# Altium integrated library Common-Parts-Library-Altium.IntLib: 531 symbols (part 1 of 2)
Pins are listed as number, name and electrical type; pins without a type are passive.

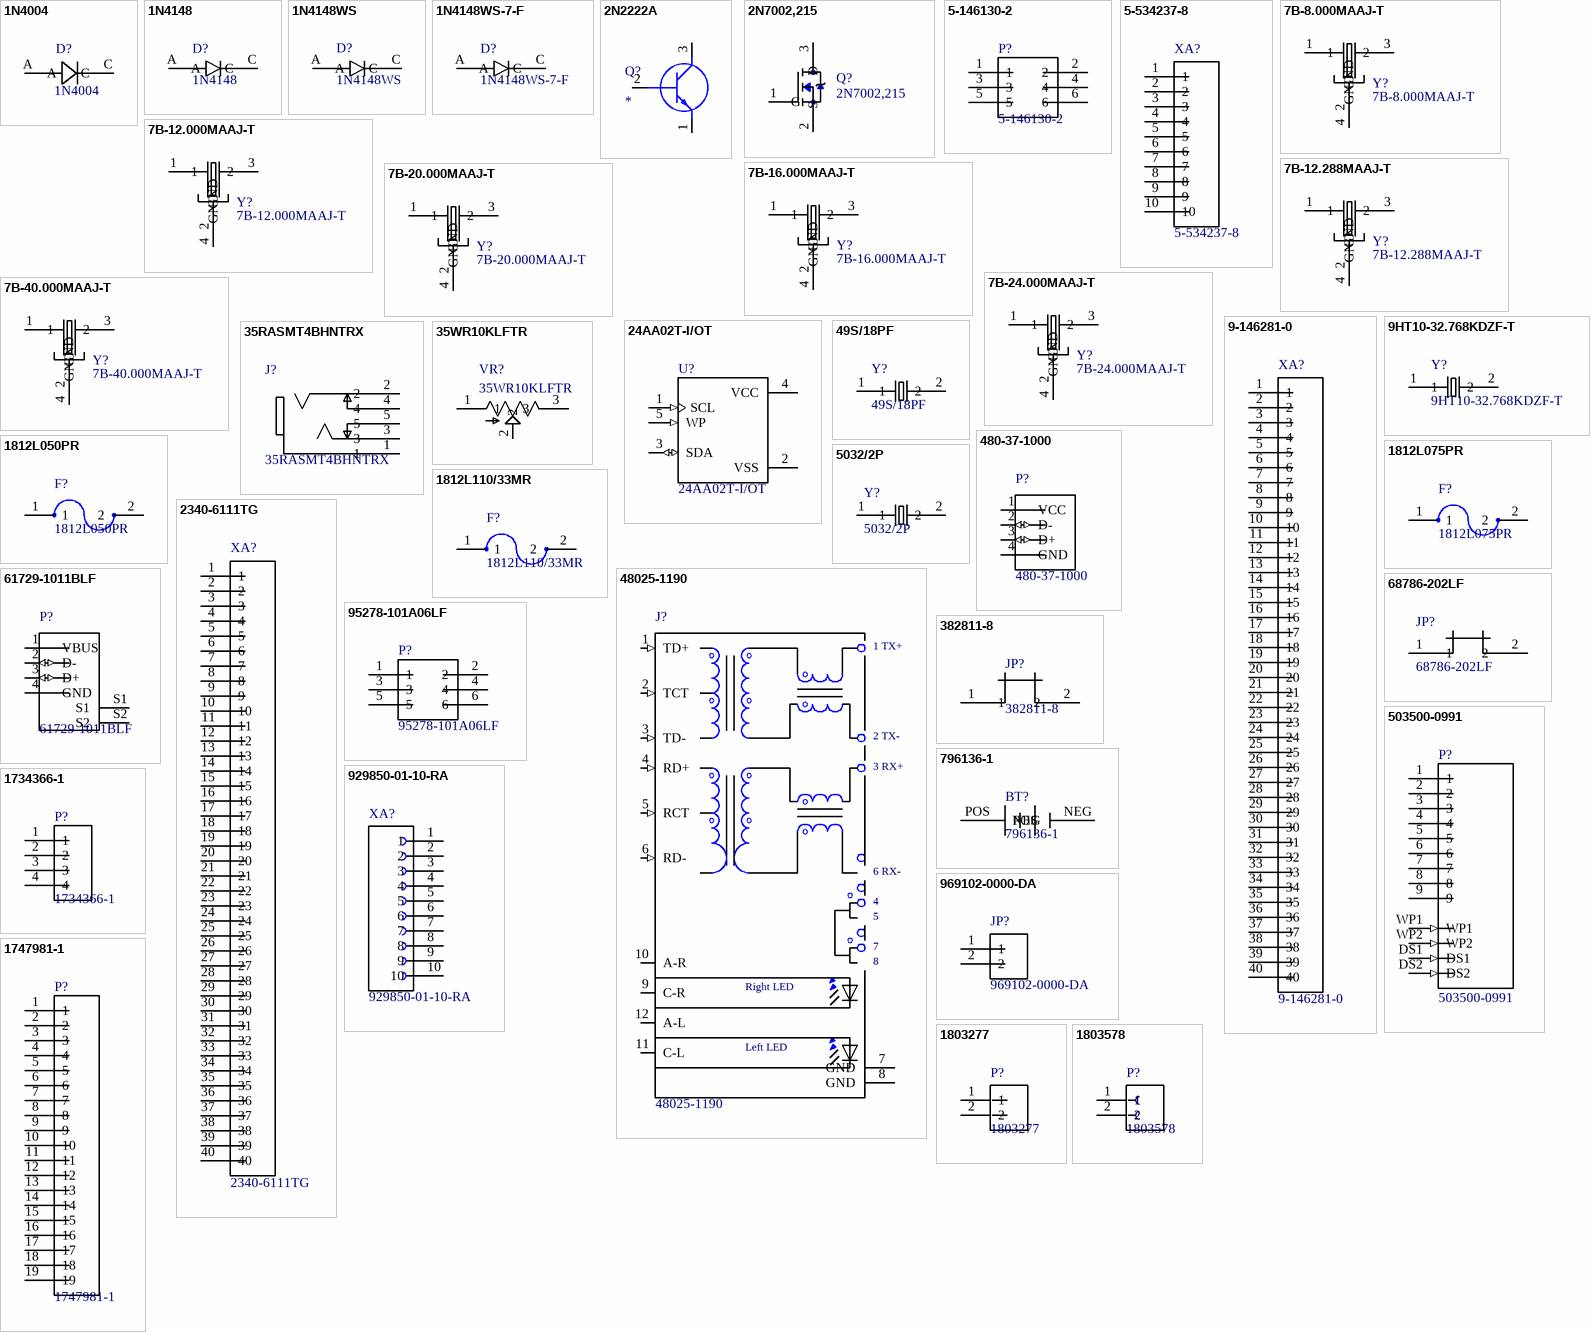
[diagram p0: symbols 1N4004 to 1803578]

## 1N4004
designator D?
Value: *
footprint DIOAD520W79L463D238_1N4004(Primary)
pins: A, C

## 1N4148
designator D?
Value: *
footprint DIOMELF3515N_1N4148(Primary)
pins: A, C

## 1N4148WS
designator D?
Value: *
footprint SODFL2512X100N_1N4148WS(Primary)
pins: A, C

## 1N4148WS-7-F
designator D?
Value: *
footprint SOD2513X120N_1N4148WS-7-F(Primary)
pins: A, C

## 2N2222A
designator Q?
Transistor BJT NPN; Manufacturer_Name: Central Semiconductor; Manufacturer_Part_Number: 2N2222A; Description: Bipolar Transistors - BJT NPN Gen Pur SS; Datasheet Link: https://my.centralsemi.com/get_document.php?cmp=1&mergetype=pd&mergepath=pd&pdf_id=2N2221A.PDF; Mouser Part Number: 610-2N2222A; Mouser Price/Stock: https://www.mouser.com/Search/Refine.aspx?Keyword=610-2N2222A; Arrow Part Number: 2N2222A; Arrow Price/Stock: https://www.arrow.com/en/products/2n2222a/central-semiconductor?utm_currency=USD&region=nac
footprint CENTRAL_TO18
pins: 1 E, 2 B, 3 C

## 2N7002,215
designator Q?
Value: *
footprint SOT95P230X110-3N
pins: 1 G, 2 S, 3 D

## 5-146130-2
designator P?
Value: *
footprint TE_5-146130-2
pins: 1, 2, 3, 4, 5, 6

## 5-534237-8
designator XA?
Value: *
footprint TE_5-534237-8
pins: 1, 2, 3, 4, 5, 6, 7, 8, 9, 10

## 7B-8.000MAAJ-T
designator Y?
Value: *
footprint OSCSC500X320X105-4N
pins: 1, 2 GND, 3 2, 4 GND

## 7B-12.000MAAJ-T
designator Y?
Value: *
footprint 7B-12.000MAAJ-T_OSCSC500X320X105-4N
pins: 1, 2 GND, 3 2, 4 GND

## 7B-12.288MAAJ-T
designator Y?
Value: *
footprint 7B-12.288MAAJ-T_OSCSC500X320X105-4N
pins: 1, 2 GND, 3 2, 4 GND

## 7B-16.000MAAJ-T
designator Y?
Value: *
footprint 7B-16.000MAAJ-T_OSCSC500X320X105-4N
pins: 1, 2 GND, 3 2, 4 GND

## 7B-20.000MAAJ-T
designator Y?
Value: *
footprint 7B-20.000MAAJ-T_OSCSC500X320X105-4N
pins: 1, 2 GND, 3 2, 4 GND

## 7B-24.000MAAJ-T
designator Y?
Value: *
footprint 7B-24.000MAAJ-T_OSCSC500X320X105-4N
pins: 1, 2 GND, 3 2, 4 GND

## 7B-40.000MAAJ-T
designator Y?
Value: *
footprint 7B-40.000MAAJ-T_OSCSC500X320X105-4N
pins: 1, 2 GND, 3 2, 4 GND

## 9-146281-0
designator XA?
Value: *
footprint TE_9-146281-0
pins: 1, 2, 3, 4, 5, 6, 7, 8, 9, 10, 11, 12, 13, 14, 15, 16, 17, 18, 19, 20, 21, 22, 23, 24, 25, 26, 27, 28, 29, 30, 31, 32, 33, 34, 35, 36, 37, 38, 39, 40

## 9HT10-32.768KDZF-T
designator Y?
Value: *
footprint XTAL320X150X85
pins: 1, 2

## 24AA02T-I/OT
designator U?
Value: *
footprint 24AA02T-I/OT_SOT95P270X145-5N
pins: 1 SCL (in), 2 VSS, 3 SDA (io), 4 VCC (power), 5 WP (in)

## 35RASMT4BHNTRX
designator J?
Value: *
footprint SWITCHCRAFT_35RASMT4BHNTRX
pins: 1, 2, 3, 4, 5

## 35WR10KLFTR
designator VR?
Value: *
footprint TRIM_35WR10KLFTR
pins: 1, 2, 3

## 49S/18PF
designator Y?
Value: *
footprint XTAL_49S/18PF
pins: 1, 2

## 480-37-1000
designator P?
Value: *
footprint MOLEX_480-37-1000
pins: 1 VCC (power), 2 D- (io), 3 D+ (io), 4 GND (power)

## 1812L050PR
designator F?
Value: *
footprint 1812L050PR_FUSM4632X75
pins: 1, 2

## 1812L075PR
designator F?
Value: *
footprint FUSM4632X75
pins: 1, 2

## 1812L110/33MR
designator F?
Value: *
footprint FUSM4632X200N
pins: 1, 2

## 2340-6111TG
designator XA?
Value: *
footprint 3M_2340-6111TG
pins: 1, 2, 3, 4, 5, 6, 7, 8, 9, 10, 11, 12, 13, 14, 15, 16, 17, 18, 19, 20, 21, 22, 23, 24, 25, 26, 27, 28, 29, 30, 31, 32, 33, 34, 35, 36, 37, 38, 39, 40

## 5032/2P
designator Y?
Value: *
footprint OSCCC500X320X135
pins: 1, 2

## 48025-1190
designator J?
Value: *
footprint MOLEX_48025-1190
pins: 1 TD+ (in), 2 TCT (in), 3 TD- (in), 4 RD+ (in), 5 RCT (in), 6 RD- (in), 7 GND, 8 GND, 9 C-R, 10 A-R, 11 C-L, 12 A-L
text: 1 TX+; 2 TX-; 3 RX+; 6 RX-; Right LED; Left LED

## 61729-1011BLF
designator P?
Value: *
footprint FCI_61729-1011BLF_61729-1011BLF(Primary)
pins: 1 VBUS (power), 2 D- (io), 3 D+ (io), 4 GND (power), S1, S2

## 68786-202LF
designator JP?
Value: *
footprint FCI_68786-202LF
pins: 1, 2

## 95278-101A06LF
designator P?
Value: *
footprint FCI_95278-101A06LF
pins: 1, 2, 3, 4, 5, 6

## 382811-8
designator JP?
Value: *
footprint TE_382811-8
pins: 1, 2

## 503500-0991
designator P?
Value: *
footprint MOLEX_503500-0991_503500-0991(Primary)
pins: 1, 2, 3, 4, 5, 6, 7, 8, 9, DS1 (in), DS2 (in), WP1 (in), WP2 (in)

## 796136-1
designator BT?
Value: *
footprint BAT_796136-1_796136-1(Primary)
pins: NEG, POS

## 929850-01-10-RA
designator XA?
Value: *
footprint 3M_929850-01-10-RA
pins: 1, 2, 3, 4, 5, 6, 7, 8, 9, 10

## 969102-0000-DA
designator JP?
Value: *
footprint 3M_969102-0000-DA
pins: 1, 2

## 1734366-1
designator P?
Value: *
footprint TE_1734366-1
pins: 1, 2, 3, 4

## 1747981-1
designator P?
Value: *
footprint TE_1747981-1
pins: 1, 2, 3, 4, 5, 6, 7, 8, 9, 10, 11, 12, 13, 14, 15, 16, 17, 18, 19

## 1803277
designator P?
Value: *
footprint PHOENIX_1803277
pins: 1, 2

## 1803578
designator P?
Value: *
footprint PHOENIX_1803578
pins: 1, 2

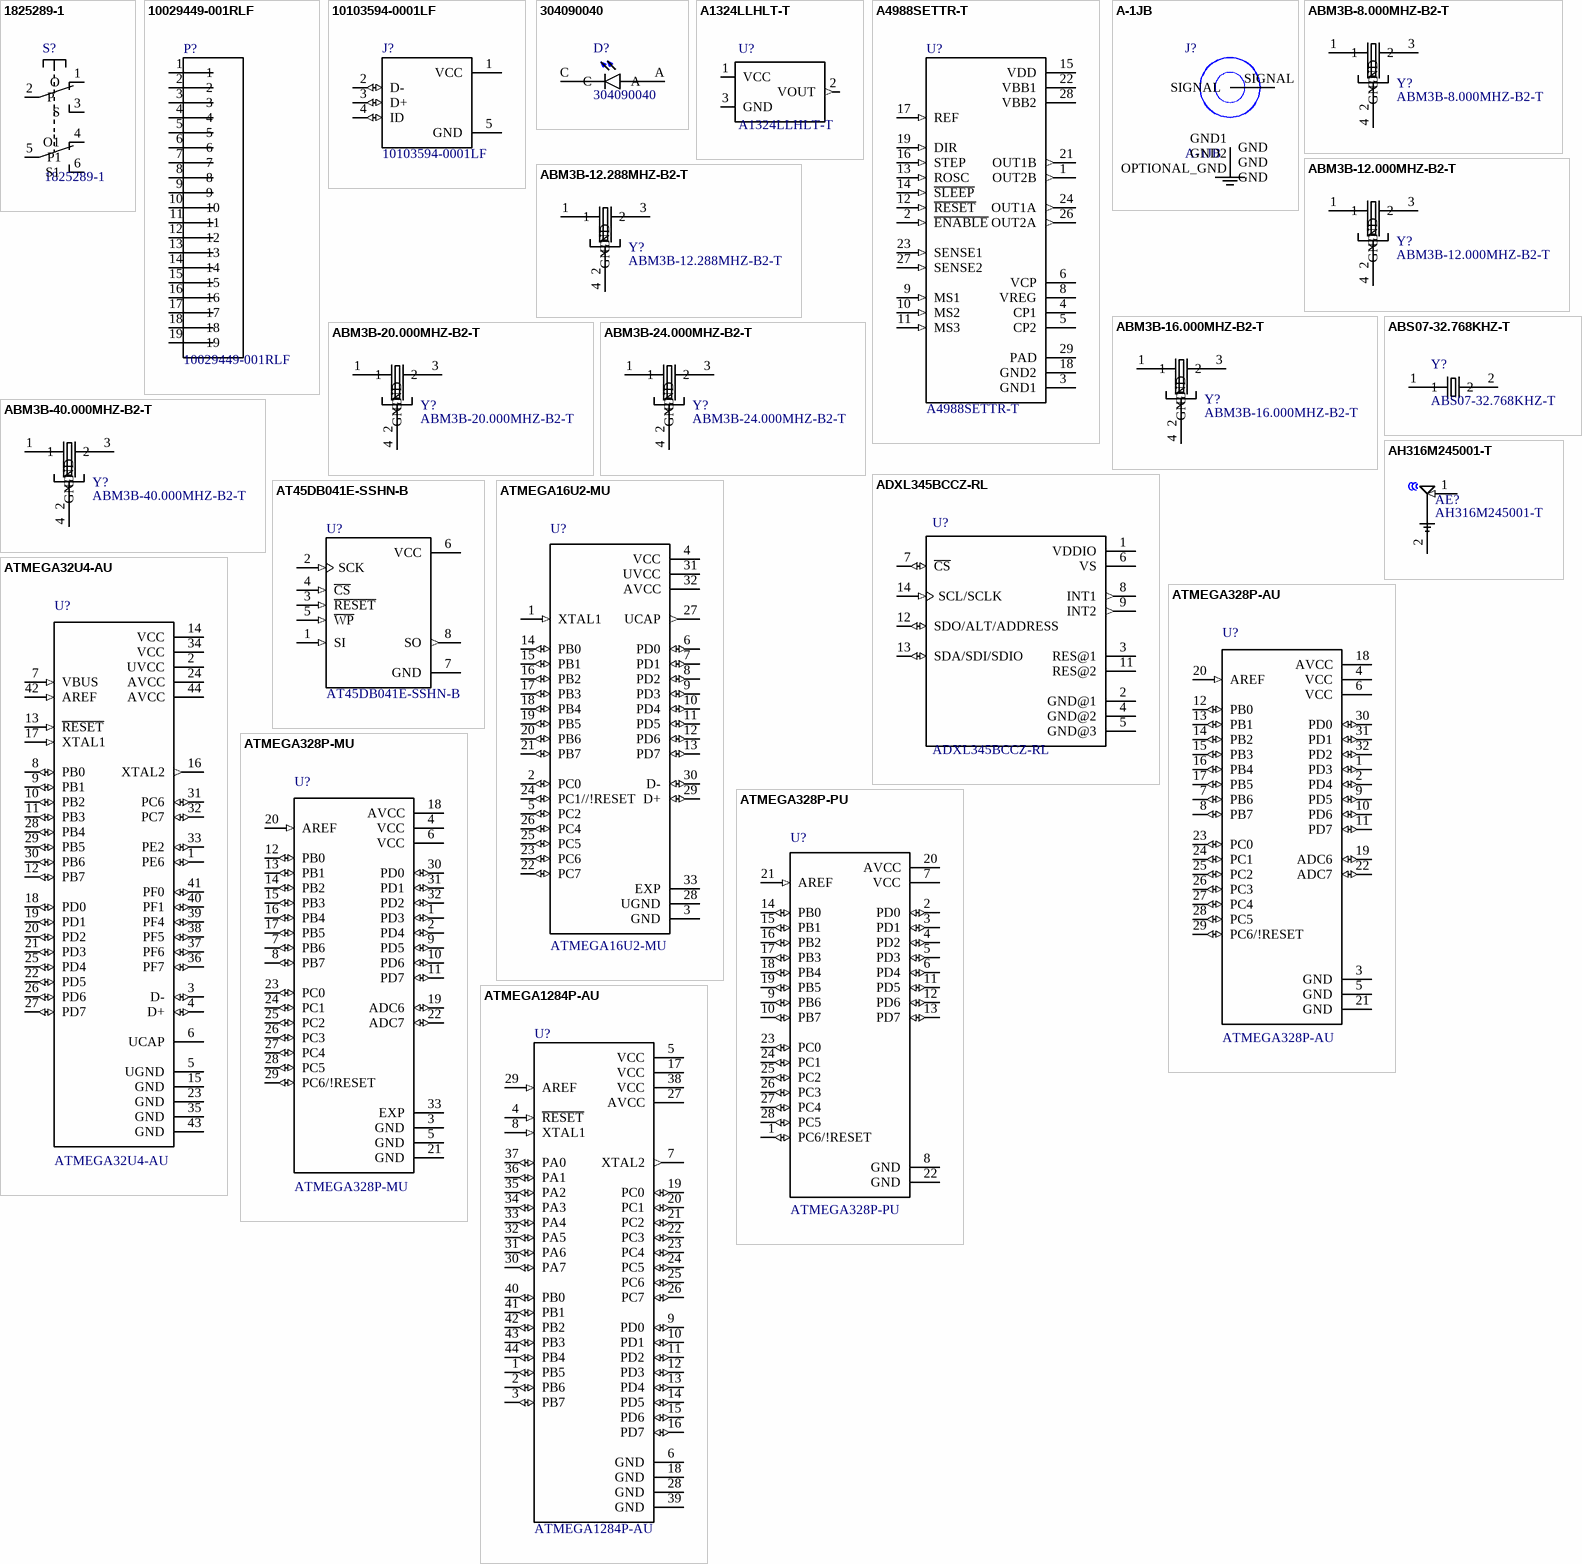
[diagram p1: symbols 1825289-1 to ATMEGA1284P-AU]

## 1825289-1
designator S?
Value: *
footprint SW_1825289-1
pins: 1 O, 2 P, 3 S, 4 O1, 5 P1, 6 S1

## 10029449-001RLF
designator P?
Value: *
footprint FCI_10029449-001RLF
pins: 1, 2, 3, 4, 5, 6, 7, 8, 9, 10, 11, 12, 13, 14, 15, 16, 17, 18, 19

## 10103594-0001LF
designator J?
Value: *
footprint FCI_10103594-0001LF
pins: 1 VCC (power), 2 D- (io), 3 D+ (io), 4 ID (io), 5 GND (power)

## 304090040
designator D?
Value: *
footprint LED_304090040_304090040(Primary)
pins: A, C

## A1324LLHLT-T
designator U?
Value: *
footprint SOT95P285X113-3N
pins: 1 VCC (power), 2 VOUT (out), 3 GND (power)

## A4988SETTR-T
designator U?
Value: *
footprint QFN50P500X500X90-29N
pins: 1 OUT2B (out), 2 ~{ENABLE} (in), 3 GND1, 4 CP1, 5 CP2, 6 VCP, 8 VREG, 9 MS1 (in), 10 MS2 (in), 11 MS3 (in), 12 ~{RESET} (in), 13 ROSC (in), 14 ~{SLEEP} (in), 15 VDD (power), 16 STEP (in), 17 REF (in), 18 GND2, 19 DIR (in), 21 OUT1B (out), 22 VBB1 (power), 23 SENSE1 (in), 24 OUT1A (out), 26 OUT2A (out), 27 SENSE2 (in), 28 VBB2 (power), 29 PAD

## A-1JB
designator J?
Value: *
footprint AMPHENOL_A-1JB_A-1JB(Primary)
pins: GND1 GND, GND2 GND, OPTIONAL_GND GND, SIGNAL

## ABM3B-8.000MHZ-B2-T
designator Y?
Value: *
footprint OSCSC500X320X110-4N
pins: 1, 2 GND, 3 2, 4 GND

## ABM3B-12.000MHZ-B2-T
designator Y?
Value: *
footprint ABM3B-12.000MHZ-B2-T_OSCSC500X320X110-4N
pins: 1, 2 GND, 3 2, 4 GND

## ABM3B-12.288MHZ-B2-T
designator Y?
Value: *
footprint ABM3B-12.288MHZ-B2-T_OSCSC500X320X110-4N
pins: 1, 2 GND, 3 2, 4 GND

## ABM3B-16.000MHZ-B2-T
designator Y?
Value: *
footprint ABM3B-16.000MHZ-B2-T_OSCSC500X320X110-4N
pins: 1, 2 GND, 3 2, 4 GND

## ABM3B-20.000MHZ-B2-T
designator Y?
Value: *
footprint ABM3B-20.000MHZ-B2-T_OSCSC500X320X110-4N
pins: 1, 2 GND, 3 2, 4 GND

## ABM3B-24.000MHZ-B2-T
designator Y?
Value: *
footprint ABM3B-24.000MHZ-B2-T_OSCSC500X320X110-4N
pins: 1, 2 GND, 3 2, 4 GND

## ABM3B-40.000MHZ-B2-T
designator Y?
Value: *
footprint ABM3B-40.000MHZ-B2-T_OSCSC500X320X110-4N
pins: 1, 2 GND, 3 2, 4 GND

## ABS07-32.768KHZ-T
designator Y?
Value: *
footprint ABS07-32.768KHZ-T_XTAL320X150X90
pins: 1, 2

## ADXL345BCCZ-RL
designator U?
Value: *
footprint PQFN80P300X500X79-14N
pins: 1 VDDIO (power), 2 GND@1 (power), 3 RES@1, 4 GND@2 (power), 5 GND@3 (power), 6 VS (power), 7 ~{CS} (io), 8 INT1 (out), 9 INT2 (out), 11 RES@2, 12 SDO/ALT/ADDRESS (io), 13 SDA/SDI/SDIO (io), 14 SCL/SCLK (in)

## AH316M245001-T
designator AE?
Value: *
footprint XDCR_AH316M245001-T
pins: 1 SIG (in), 2 GND (power)

## AT45DB041E-SSHN-B
designator U?
Value: *
footprint AT45DB041E-SSHN-B_SOIC127P600X175-8N
pins: 1 SI (in), 2 SCK (in), 3 ~{RESET} (in), 4 ~{CS} (in), 5 ~{WP} (in), 6 VCC (power), 7 GND, 8 SO (out)

## ATMEGA16U2-MU
designator U?
Value: *
footprint ATMEGA16U2-MU_QFN50P500X500X100-33N
pins: 1 XTAL1 (in), 2 PC0 (io), 3 GND (power), 4 VCC (power), 5 PC2 (io), 6 PD0 (io), 7 PD1 (io), 8 PD2 (io), 9 PD3 (io), 10 PD4 (io), 11 PD5 (io), 12 PD6 (io), 13 PD7 (io), 14 PB0 (io), 15 PB1 (io), 16 PB2 (io), 17 PB3 (io), 18 PB4 (io), 19 PB5 (io), 20 PB6 (io), 21 PB7 (io), 22 PC7 (io), 23 PC6 (io), 24 PC1//!RESET (io), 25 PC5 (io), 26 PC4 (io), 27 UCAP (out), 28 UGND (power), 29 D+ (io), 30 D- (io), 31 UVCC (power), 32 AVCC (power), 33 EXP (power)

## ATMEGA32U4-AU
designator U?
Value: *
footprint QFP80P1200X1200X120-44N
pins: 1 PE6 (io), 2 UVCC (power), 3 D- (io), 4 D+ (io), 5 UGND (power), 6 UCAP, 7 VBUS (in), 8 PB0 (io), 9 PB1 (io), 10 PB2 (io), 11 PB3 (io), 12 PB7 (io), 13 ~{RESET} (in), 14 VCC (power), 15 GND (power), 16 XTAL2 (out), 17 XTAL1 (in), 18 PD0 (io), 19 PD1 (io), 20 PD2 (io), 21 PD3 (io), 22 PD5 (io), 23 GND (power), 24 AVCC (power), 25 PD4 (io), 26 PD6 (io), 27 PD7 (io), 28 PB4 (io), 29 PB5 (io), 30 PB6 (io), 31 PC6 (io), 32 PC7 (io), 33 PE2 (io), 34 VCC (power), 35 GND (power), 36 PF7 (io), 37 PF6 (io), 38 PF5 (io), 39 PF4 (io), 40 PF1 (io), 41 PF0 (io), 42 AREF (in), 43 GND (power), 44 AVCC (power)

## ATMEGA328P-AU
designator U?
Value: *
footprint QFP80P900X900X120-32N
pins: 1 PD3 (io), 2 PD4 (io), 3 GND (power), 4 VCC (power), 5 GND (power), 6 VCC (power), 7 PB6 (io), 8 PB7 (io), 9 PD5 (io), 10 PD6 (io), 11 PD7 (io), 12 PB0 (io), 13 PB1 (io), 14 PB2 (io), 15 PB3 (io), 16 PB4 (io), 17 PB5 (io), 18 AVCC (power), 19 ADC6 (io), 20 AREF (in), 21 GND (power), 22 ADC7 (io), 23 PC0 (io), 24 PC1 (io), 25 PC2 (io), 26 PC3 (io), 27 PC4 (io), 28 PC5 (io), 29 PC6/!RESET (io), 30 PD0 (io), 31 PD1 (io), 32 PD2 (io)

## ATMEGA328P-MU
designator U?
Value: *
footprint QFN50P500X500X100-33N
pins: 1 PD3 (io), 2 PD4 (io), 3 GND (power), 4 VCC (power), 5 GND (power), 6 VCC (power), 7 PB6 (io), 8 PB7 (io), 9 PD5 (io), 10 PD6 (io), 11 PD7 (io), 12 PB0 (io), 13 PB1 (io), 14 PB2 (io), 15 PB3 (io), 16 PB4 (io), 17 PB5 (io), 18 AVCC (power), 19 ADC6 (io), 20 AREF (in), 21 GND (power), 22 ADC7 (io), 23 PC0 (io), 24 PC1 (io), 25 PC2 (io), 26 PC3 (io), 27 PC4 (io), 28 PC5 (io), 29 PC6/!RESET (io), 30 PD0 (io), 31 PD1 (io), 32 PD2 (io), 33 EXP (power)

## ATMEGA328P-PU
designator U?
Value: *
footprint DIP794W46P254L2967H457Q28B
pins: 1 PC6/!RESET (io), 2 PD0 (io), 3 PD1 (io), 4 PD2 (io), 5 PD3 (io), 6 PD4 (io), 7 VCC (power), 8 GND (power), 9 PB6 (io), 10 PB7 (io), 11 PD5 (io), 12 PD6 (io), 13 PD7 (io), 14 PB0 (io), 15 PB1 (io), 16 PB2 (io), 17 PB3 (io), 18 PB4 (io), 19 PB5 (io), 20 AVCC (power), 21 AREF (in), 22 GND (power), 23 PC0 (io), 24 PC1 (io), 25 PC2 (io), 26 PC3 (io), 27 PC4 (io), 28 PC5 (io)

## ATMEGA1284P-AU
designator U?
Value: *
footprint ATMEGA1284P-AU_QFP80P1200X1200X120-44N
pins: 1 PB5 (io), 2 PB6 (io), 3 PB7 (io), 4 ~{RESET} (in), 5 VCC (power), 6 GND (power), 7 XTAL2 (out), 8 XTAL1 (in), 9 PD0 (io), 10 PD1 (io), 11 PD2 (io), 12 PD3 (io), 13 PD4 (io), 14 PD5 (io), 15 PD6 (io), 16 PD7 (io), 17 VCC (power), 18 GND (power), 19 PC0 (io), 20 PC1 (io), 21 PC2 (io), 22 PC3 (io), 23 PC4 (io), 24 PC5 (io), 25 PC6 (io), 26 PC7 (io), 27 AVCC (power), 28 GND (power), 29 AREF (in), 30 PA7 (io), 31 PA6 (io), 32 PA5 (io), 33 PA4 (io), 34 PA3 (io), 35 PA2 (io), 36 PA1 (io), 37 PA0 (io), 38 VCC (power), 39 GND (power), 40 PB0 (io), 41 PB1 (io), 42 PB2 (io), 43 PB3 (io), 44 PB4 (io)

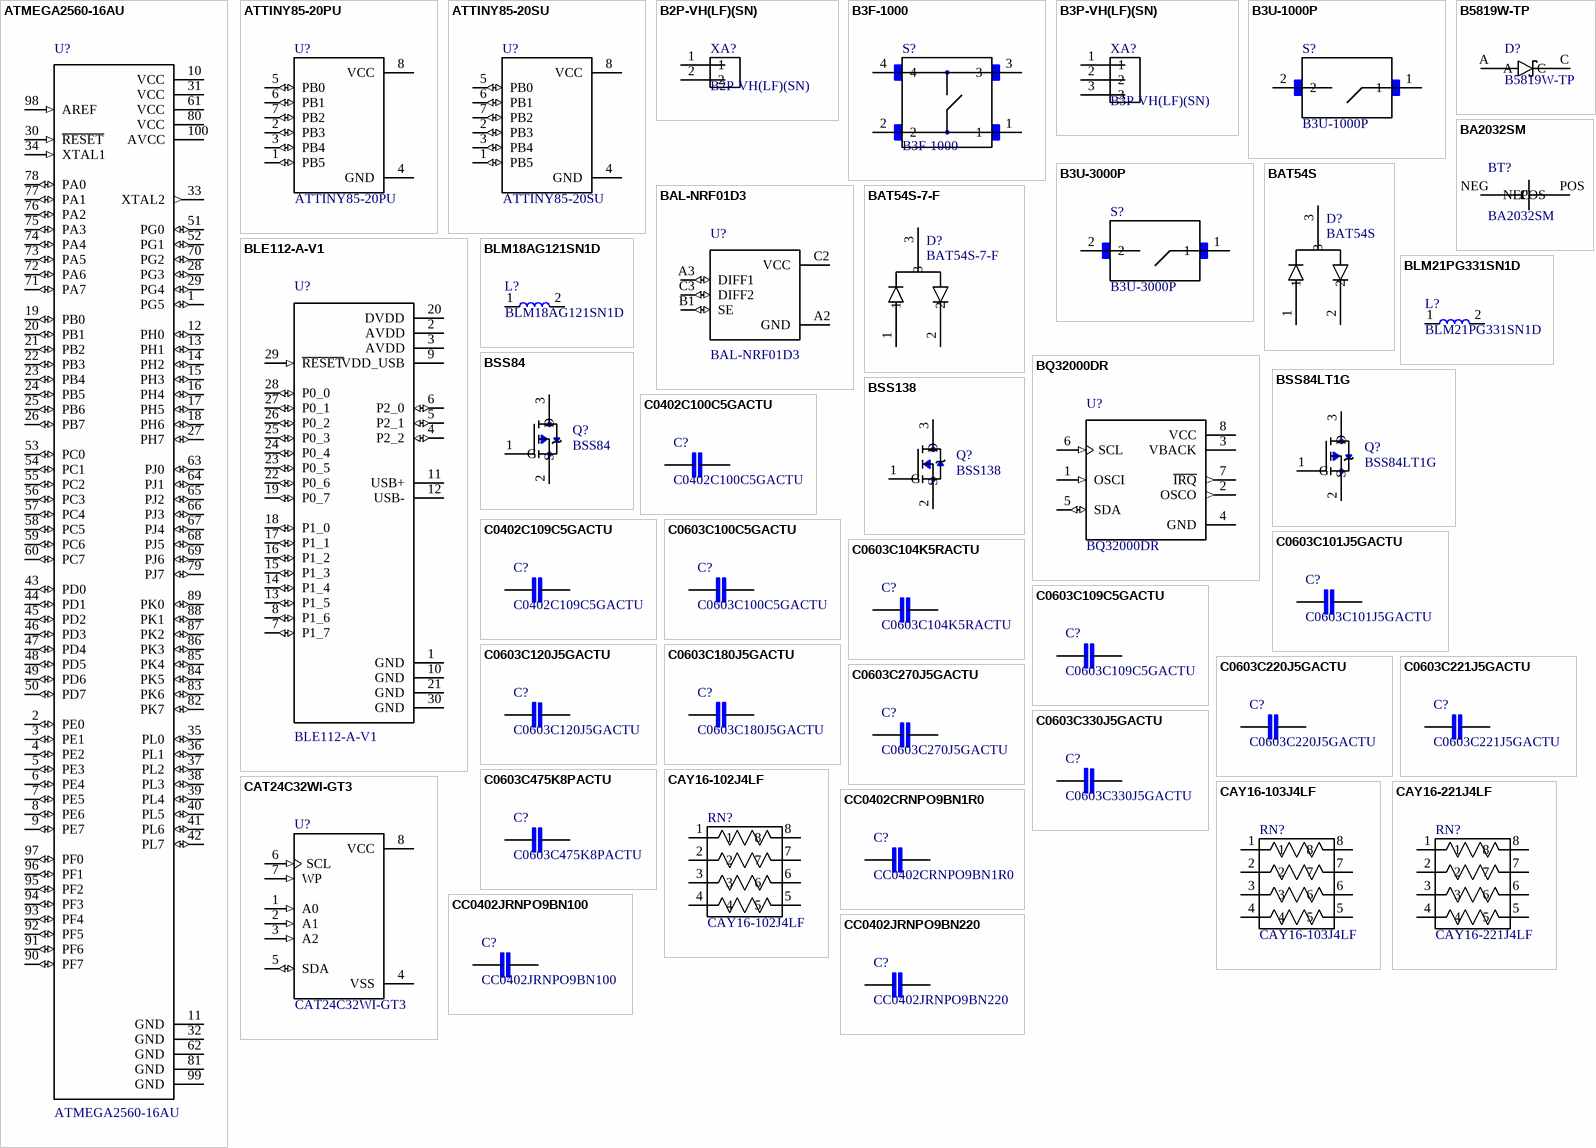
[diagram p2: symbols ATMEGA2560-16AU to CC0402JRNPO9BN220]

## ATMEGA2560-16AU
designator U?
Value: *
footprint QFP50P1600X1600X120-100N
pins: 1 PG5 (io), 2 PE0 (io), 3 PE1 (io), 4 PE2 (io), 5 PE3 (io), 6 PE4 (io), 7 PE5 (io), 8 PE6 (io), 9 PE7 (io), 10 VCC (power), 11 GND (power), 12 PH0 (io), 13 PH1 (io), 14 PH2 (io), 15 PH3 (io), 16 PH4 (io), 17 PH5 (io), 18 PH6 (io), 19 PB0 (io), 20 PB1 (io), 21 PB2 (io), 22 PB3 (io), 23 PB4 (io), 24 PB5 (io), 25 PB6 (io), 26 PB7 (io), 27 PH7 (io), 28 PG3 (io), 29 PG4 (io), 30 ~{RESET} (in), 31 VCC (power), 32 GND (power), 33 XTAL2 (out), 34 XTAL1 (in), 35 PL0 (io), 36 PL1 (io), 37 PL2 (io), 38 PL3 (io), 39 PL4 (io), 40 PL5 (io), 41 PL6 (io), 42 PL7 (io), 43 PD0 (io), 44 PD1 (io), 45 PD2 (io), 46 PD3 (io), 47 PD4 (io), 48 PD5 (io), 49 PD6 (io), 50 PD7 (io), 51 PG0 (io), 52 PG1 (io), 53 PC0 (io), 54 PC1 (io), 55 PC2 (io), 56 PC3 (io), 57 PC4 (io), 58 PC5 (io), 59 PC6 (io), 60 PC7 (io), 61 VCC (power), 62 GND (power), 63 PJ0 (io), 64 PJ1 (io), 65 PJ2 (io), 66 PJ3 (io), 67 PJ4 (io), 68 PJ5 (io), 69 PJ6 (io), 70 PG2 (io), 71 PA7 (io), 72 PA6 (io), 73 PA5 (io), 74 PA4 (io), 75 PA3 (io), 76 PA2 (io), 77 PA1 (io), 78 PA0 (io), 79 PJ7 (io), 80 VCC (power), 81 GND (power), 82 PK7 (io), 83 PK6 (io), 84 PK5 (io), 85 PK4 (io), 86 PK3 (io), 87 PK2 (io), 88 PK1 (io), 89 PK0 (io), 90 PF7 (io), 91 PF6 (io), 92 PF5 (io), 93 PF4 (io), 94 PF3 (io), 95 PF2 (io), 96 PF1 (io), 97 PF0 (io), 98 AREF (in), 99 GND (power), 100 AVCC (power)

## ATTINY85-20PU
designator U?
Value: *
footprint DIP762W46P254L927H533Q8B
pins: 1 PB5 (io), 2 PB3 (io), 3 PB4 (io), 4 GND (power), 5 PB0 (io), 6 PB1 (io), 7 PB2 (io), 8 VCC (power)

## ATTINY85-20SU
designator U?
Value: *
footprint SOIC127P798X216-8N
pins: 1 PB5 (io), 2 PB3 (io), 3 PB4 (io), 4 GND (power), 5 PB0 (io), 6 PB1 (io), 7 PB2 (io), 8 VCC (power)

## B2P-VH(LF)(SN)
designator XA?
Value: *
footprint JST_B2P-VH(LF)(SN)
pins: 1, 2

## B3F-1000
designator S?
Value: *
footprint SW_B3F-1000
pins: 1, 2, 3, 4

## B3P-VH(LF)(SN)
designator XA?
Value: *
footprint JST_B3P-VH(LF)(SN)
pins: 1, 2, 3

## B3U-1000P
designator S?
Value: *
footprint SW_B3U-1000P
pins: 1, 2

## B3U-3000P
designator S?
Value: *
footprint SW_B3U-3000P
pins: 1, 2

## B5819W-TP
designator D?
Value: *
footprint B5819W-TP_SOD3716X135N_B5819W-TP(Primary)
pins: A, C

## BA2032SM
designator BT?
Value: *
footprint BAT_BA2032SM_BA2032SM(Primary)
pins: NEG, POS

## BAL-NRF01D3
designator U?
Value: *
footprint BGA5N50X60P3X3_150X100X69_BAL-NRF01D3(Primary)
pins: A2 GND (power), A3 DIFF1 (io), B1 SE (io), C2 VCC (power), C3 DIFF2 (io)

## BAT54S
designator D?
Value: *
footprint BAT54S_SOT95P240X120-3N
pins: 1, 2, 3

## BAT54S-7-F
designator D?
Value: *
footprint SOT95P240X110-3N
pins: 1, 2, 3

## BLE112-A-V1
designator U?
Value: *
footprint BLUEGIGA_BLE112-A
pins: 1 GND (power), 2 AVDD (power), 3 AVDD (power), 4 P2_2 (io), 5 P2_1 (io), 6 P2_0 (io), 7 P1_7 (io), 8 P1_6 (io), 9 VDD_USB (power), 10 GND (power), 11 USB+, 12 USB-, 13 P1_5 (io), 14 P1_4 (io), 15 P1_3 (io), 16 P1_2 (io), 17 P1_1 (io), 18 P1_0 (io), 19 P0_7 (io), 20 DVDD (power), 21 GND (power), 22 P0_6 (io), 23 P0_5 (io), 24 P0_4 (io), 25 P0_3 (io), 26 P0_2 (io), 27 P0_1 (io), 28 P0_0 (io), 29 ~{RESET} (in), 30 GND (power)

## BLM18AG121SN1D
designator L?
Value: *
footprint INDC1608X95
pins: 1, 2

## BLM21PG331SN1D
designator L?
Value: *
footprint INDC2012X87
pins: 1, 2

## BQ32000DR
designator U?
Value: *
footprint BQ32000DR_SOIC127P600X175-8N
pins: 1 OSCI (in), 2 OSCO (out), 3 VBACK (power), 4 GND, 5 SDA (io), 6 SCL (in), 7 ~{IRQ} (out), 8 VCC (power)

## BSS84
designator Q?
Value: *
footprint BSS84_SOT95P240X120-3N
pins: 1 G, 2 S, 3 D

## BSS84LT1G
designator Q?
Value: *
footprint BSS84LT1G_SOT95P240X111-3N
pins: 1 G, 2 S, 3 D

## BSS138
designator Q?
Value: *
footprint BSS138_SOT95P240X120-3N
pins: 1 G, 2 S, 3 D

## C0402C100C5GACTU
designator C?
Value: *
footprint C0402C100C5GACTU_CAPC1005X60
pins: 1, 2

## C0402C109C5GACTU
designator C?
Value: *
footprint C0402C109C5GACTU_CAPC1005X60
pins: 1, 2

## C0603C100C5GACTU
designator C?
Value: *
footprint C0603C100C5GACTU_CAPC1608X90
pins: 1, 2

## C0603C101J5GACTU
designator C?
Value: *
footprint C0603C101J5GACTU_CAPC1608X90
pins: 1, 2

## C0603C104K5RACTU
designator C?
Value: *
footprint C0603C104K5RACTU_CAPC1608X90
pins: 1, 2

## C0603C109C5GACTU
designator C?
Value: *
footprint C0603C109C5GACTU_CAPC1608X90
pins: 1, 2

## C0603C120J5GACTU
designator C?
Value: *
footprint C0603C120J5GACTU_CAPC1608X90
pins: 1, 2

## C0603C180J5GACTU
designator C?
Value: *
footprint C0603C180J5GACTU_CAPC1608X90
pins: 1, 2

## C0603C220J5GACTU
designator C?
Value: *
footprint C0603C220J5GACTU_CAPC1608X90
pins: 1, 2

## C0603C221J5GACTU
designator C?
Value: *
footprint C0603C221J5GACTU_CAPC1608X90
pins: 1, 2

## C0603C270J5GACTU
designator C?
Value: *
footprint C0603C270J5GACTU_CAPC1608X90
pins: 1, 2

## C0603C330J5GACTU
designator C?
Value: *
footprint C0603C330J5GACTU_CAPC1608X90
pins: 1, 2

## C0603C475K8PACTU
designator C?
Value: *
footprint C0603C475K8PACTU_CAPC1608X90
pins: 1, 2

## CAT24C32WI-GT3
designator U?
Value: *
footprint CAT24C32WI-GT3_SOIC127P600X175-8N
pins: 1 A0 (in), 2 A1 (in), 3 A2 (in), 4 VSS, 5 SDA (io), 6 SCL (in), 7 WP (in), 8 VCC (power)

## CAY16-102J4LF
designator RN?
Value: *
footprint CAY16-102J4LF_RESCAXE80P320X160-8N
pins: 1, 2, 3, 4, 5, 6, 7, 8

## CAY16-103J4LF
designator RN?
Value: *
footprint CAY16-103J4LF_RESCAXE80P320X160-8N
pins: 1, 2, 3, 4, 5, 6, 7, 8

## CAY16-221J4LF
designator RN?
Value: *
footprint RESCAXE80P320X160-8N
pins: 1, 2, 3, 4, 5, 6, 7, 8

## CC0402CRNPO9BN1R0
designator C?
Value: *
footprint CC0402CRNPO9BN1R0_CAPC1005X60
pins: 1, 2

## CC0402JRNPO9BN100
designator C?
Value: *
footprint CC0402JRNPO9BN100_CAPC1005X60
pins: 1, 2

## CC0402JRNPO9BN220
designator C?
Value: *
footprint CC0402JRNPO9BN220_CAPC1005X60
pins: 1, 2

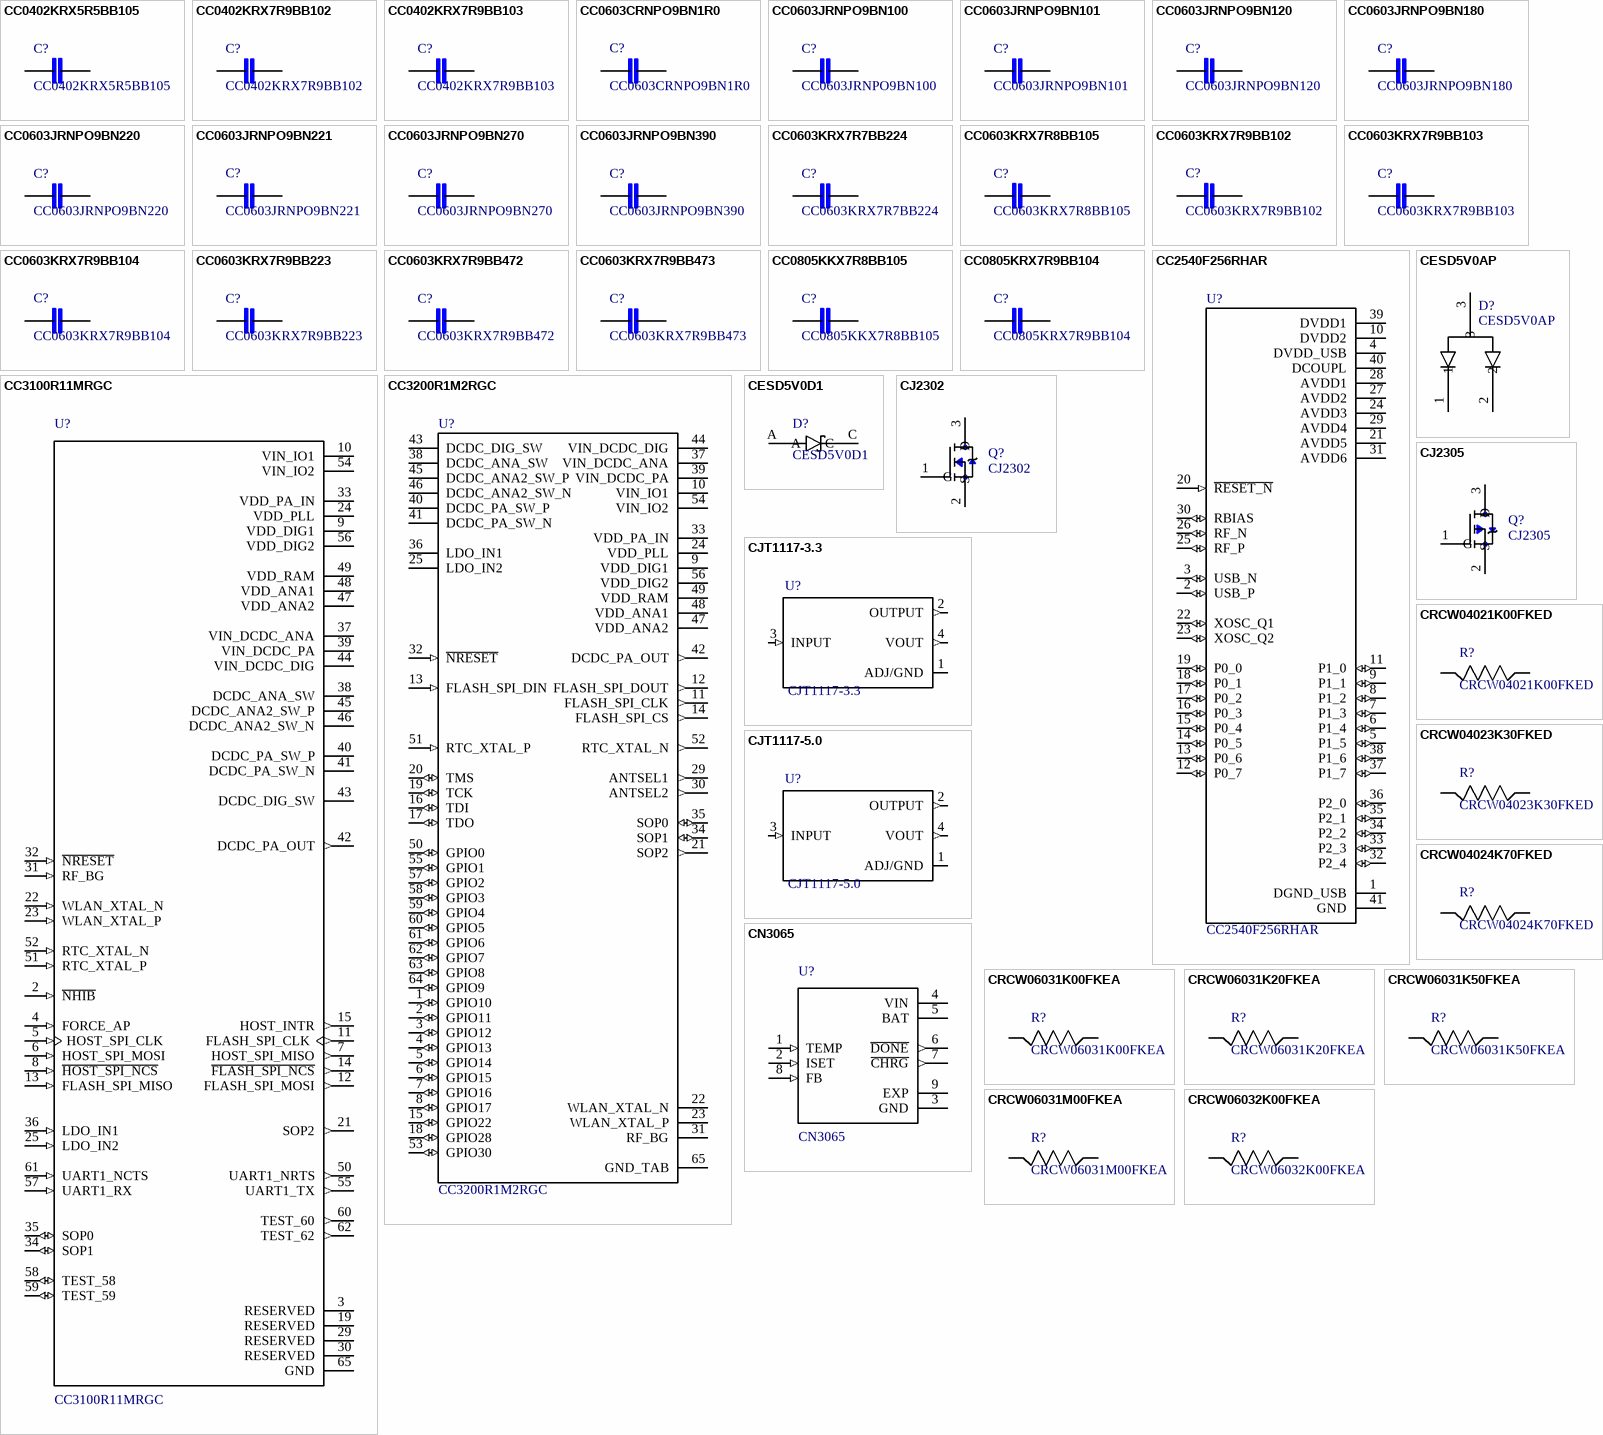
[diagram p3: symbols CC0402KRX5R5BB105 to CRCW06032K00FKEA]

## CC0402KRX5R5BB105
designator C?
Value: *
footprint CC0402KRX5R5BB105_CAPC1005X60
pins: 1, 2

## CC0402KRX7R9BB102
designator C?
Value: *
footprint CC0402KRX7R9BB102_CAPC1005X60
pins: 1, 2

## CC0402KRX7R9BB103
designator C?
Value: *
footprint CAPC1005X60
pins: 1, 2

## CC0603CRNPO9BN1R0
designator C?
Value: *
footprint CC0603CRNPO9BN1R0_CAPC1608X90
pins: 1, 2

## CC0603JRNPO9BN100
designator C?
Value: *
footprint CC0603JRNPO9BN100_CAPC1608X90
pins: 1, 2

## CC0603JRNPO9BN101
designator C?
Value: *
footprint CC0603JRNPO9BN101_CAPC1608X90
pins: 1, 2

## CC0603JRNPO9BN120
designator C?
Value: *
footprint CC0603JRNPO9BN120_CAPC1608X90
pins: 1, 2

## CC0603JRNPO9BN180
designator C?
Value: *
footprint CC0603JRNPO9BN180_CAPC1608X90
pins: 1, 2

## CC0603JRNPO9BN220
designator C?
Value: *
footprint CC0603JRNPO9BN220_CAPC1608X90
pins: 1, 2

## CC0603JRNPO9BN221
designator C?
Value: *
footprint CC0603JRNPO9BN221_CAPC1608X90
pins: 1, 2

## CC0603JRNPO9BN270
designator C?
Value: *
footprint CC0603JRNPO9BN270_CAPC1608X90
pins: 1, 2

## CC0603JRNPO9BN390
designator C?
Value: *
footprint CC0603JRNPO9BN390_CAPC1608X90
pins: 1, 2

## CC0603KRX7R7BB224
designator C?
Value: *
footprint CC0603KRX7R7BB224_CAPC1608X90
pins: 1, 2

## CC0603KRX7R8BB105
designator C?
Value: *
footprint CC0603KRX7R8BB105_CAPC1608X90
pins: 1, 2

## CC0603KRX7R9BB102
designator C?
Value: *
footprint CC0603KRX7R9BB102_CAPC1608X90
pins: 1, 2

## CC0603KRX7R9BB103
designator C?
Value: *
footprint CC0603KRX7R9BB103_CAPC1608X90
pins: 1, 2

## CC0603KRX7R9BB104
designator C?
Value: *
footprint CC0603KRX7R9BB104_CAPC1608X90
pins: 1, 2

## CC0603KRX7R9BB223
designator C?
Value: *
footprint CC0603KRX7R9BB223_CAPC1608X90
pins: 1, 2

## CC0603KRX7R9BB472
designator C?
Value: *
footprint CC0603KRX7R9BB472_CAPC1608X90
pins: 1, 2

## CC0603KRX7R9BB473
designator C?
Value: *
footprint CC0603KRX7R9BB473_CAPC1608X90
pins: 1, 2

## CC0805KKX7R8BB105
designator C?
Value: *
footprint CC0805KKX7R8BB105_CAPC2012X70
pins: 1, 2

## CC0805KRX7R9BB104
designator C?
Value: *
footprint CAPC2012X70
pins: 1, 2

## CC2540F256RHAR
designator U?
Value: *
footprint QFN50P600X600X100-41N
pins: 1 DGND_USB (power), 2 USB_P (io), 3 USB_N (io), 4 DVDD_USB (power), 5 P1_5 (io), 6 P1_4 (io), 7 P1_3 (io), 8 P1_2 (io), 9 P1_1 (io), 10 DVDD2 (power), 11 P1_0 (io), 12 P0_7 (io), 13 P0_6 (io), 14 P0_5 (io), 15 P0_4 (io), 16 P0_3 (io), 17 P0_2 (io), 18 P0_1 (io), 19 P0_0 (io), 20 ~{RESET_N} (in), 21 AVDD5 (power), 22 XOSC_Q1 (io), 23 XOSC_Q2 (io), 24 AVDD3 (power), 25 RF_P (io), 26 RF_N (io), 27 AVDD2 (power), 28 AVDD1 (power), 29 AVDD4 (power), 30 RBIAS (io), 31 AVDD6 (power), 32 P2_4 (io), 33 P2_3 (io), 34 P2_2 (io), 35 P2_1 (io), 36 P2_0 (io), 37 P1_7 (io), 38 P1_6 (io), 39 DVDD1 (power), 40 DCOUPL (power), 41 GND (power)

## CC3100R11MRGC
designator U?
Value: *
footprint CC3100R11MRGC_QFN50P900X900X100-65N
pins: 2 ~{NHIB} (in), 3 RESERVED (power), 4 FORCE_AP (in), 5 HOST_SPI_CLK (in), 6 HOST_SPI_MOSI (in), 7 HOST_SPI_MISO (out), 8 ~{HOST_SPI_NCS} (in), 9 VDD_DIG1 (power), 10 VIN_IO1 (power), 11 FLASH_SPI_CLK (out), 12 FLASH_SPI_MOSI (out), 13 FLASH_SPI_MISO (in), 14 ~{FLASH_SPI_NCS} (out), 15 HOST_INTR (out), 19 RESERVED (power), 21 SOP2 (out), 22 WLAN_XTAL_N (in), 23 WLAN_XTAL_P (in), 24 VDD_PLL (power), 25 LDO_IN2 (in), 29 RESERVED (power), 30 RESERVED (power), 31 RF_BG (in), 32 ~{NRESET} (in), 33 VDD_PA_IN (power), 34 SOP1 (io), 35 SOP0 (io), 36 LDO_IN1 (in), 37 VIN_DCDC_ANA (power), 38 DCDC_ANA_SW (power), 39 VIN_DCDC_PA (power), 40 DCDC_PA_SW_P (power), 41 DCDC_PA_SW_N (power), 42 DCDC_PA_OUT (out), 43 DCDC_DIG_SW (power), 44 VIN_DCDC_DIG (power), 45 DCDC_ANA2_SW_P (power), 46 DCDC_ANA2_SW_N (power), 47 VDD_ANA2 (power), 48 VDD_ANA1 (power), 49 VDD_RAM (power), 50 UART1_NRTS (out), 51 RTC_XTAL_P (in), 52 RTC_XTAL_N (in), 54 VIN_IO2 (power), 55 UART1_TX (out), 56 VDD_DIG2 (power), 57 UART1_RX (in), 58 TEST_58 (io), 59 TEST_59 (io), 60 TEST_60 (out), 61 UART1_NCTS (in), 62 TEST_62 (out), 65 GND (power)

## CC3200R1M2RGC
designator U?
Value: *
footprint QFN50P900X900X100-65N
pins: 1 GPIO10 (io), 2 GPIO11 (io), 3 GPIO12 (io), 4 GPIO13 (io), 5 GPIO14 (io), 6 GPIO15 (io), 7 GPIO16 (io), 8 GPIO17 (io), 9 VDD_DIG1 (power), 10 VIN_IO1 (power), 11 FLASH_SPI_CLK (out), 12 FLASH_SPI_DOUT (out), 13 FLASH_SPI_DIN (in), 14 FLASH_SPI_CS (out), 15 GPIO22 (io), 16 TDI (io), 17 TDO (io), 18 GPIO28 (io), 19 TCK (io), 20 TMS (io), 21 SOP2 (out), 22 WLAN_XTAL_N, 23 WLAN_XTAL_P, 24 VDD_PLL (power), 25 LDO_IN2 (power), 29 ANTSEL1 (out), 30 ANTSEL2 (out), 31 RF_BG, 32 ~{NRESET} (in), 33 VDD_PA_IN (power), 34 SOP1 (io), 35 SOP0 (io), 36 LDO_IN1 (power), 37 VIN_DCDC_ANA (power), 38 DCDC_ANA_SW (power), 39 VIN_DCDC_PA (power), 40 DCDC_PA_SW_P (power), 41 DCDC_PA_SW_N (power), 42 DCDC_PA_OUT (out), 43 DCDC_DIG_SW (power), 44 VIN_DCDC_DIG (power), 45 DCDC_ANA2_SW_P (power), 46 DCDC_ANA2_SW_N (power), 47 VDD_ANA2 (power), 48 VDD_ANA1 (power), 49 VDD_RAM (power), 50 GPIO0 (io), 51 RTC_XTAL_P (in), 52 RTC_XTAL_N (out), 53 GPIO30 (io), 54 VIN_IO2 (power), 55 GPIO1 (io), 56 VDD_DIG2 (power), 57 GPIO2 (io), 58 GPIO3 (io), 59 GPIO4 (io), 60 GPIO5 (io), 61 GPIO6 (io), 62 GPIO7 (io), 63 GPIO8 (io), 64 GPIO9 (io), 65 GND_TAB (power)

## CESD5V0AP
designator D?
Value: *
footprint CESD5V0AP_SOT95P240X115-3N
pins: 1, 2, 3

## CESD5V0D1
designator D?
Value: *
footprint SOD3716X125N_CESD5V0D1(Primary)
pins: A, C

## CJ2302
designator Q?
Value: *
footprint CJ2302_SOT95P240X115-3N
pins: 1 G, 2 S, 3 D

## CJ2305
designator Q?
Value: *
footprint CJ2305_SOT95P240X115-3N
pins: 1 G, 2 S, 3 D

## CJT1117-3.3
designator U?
Value: *
footprint CJT1117-3.3_SOT230P695X180-4N
pins: 1 ADJ/GND (power), 2 OUTPUT (out), 3 INPUT (in), 4 VOUT (out)

## CJT1117-5.0
designator U?
Value: *
footprint SOT230P695X180-4N
pins: 1 ADJ/GND (power), 2 OUTPUT (out), 3 INPUT (in), 4 VOUT (out)

## CN3065
designator U?
Value: *
footprint DFN300X300X90-9N
pins: 1 TEMP (in), 2 ISET (in), 3 GND (power), 4 VIN (power), 5 BAT (power), 6 ~{DONE} (out), 7 ~{CHRG} (out), 8 FB (in), 9 EXP (power)

## CRCW04021K00FKED
designator R?
Value: *
footprint CRCW04021K00FKED_RESC1005X40
pins: 1, 2

## CRCW04023K30FKED
designator R?
Value: *
footprint CRCW04023K30FKED_RESC1005X40
pins: 1, 2

## CRCW04024K70FKED
designator R?
Value: *
footprint CRCW04024K70FKED_RESC1005X40
pins: 1, 2

## CRCW06031K00FKEA
designator R?
Value: *
footprint CRCW06031K00FKEA_RESC1608X55
pins: 1, 2

## CRCW06031K20FKEA
designator R?
Value: *
footprint CRCW06031K20FKEA_RESC1608X55
pins: 1, 2

## CRCW06031K50FKEA
designator R?
Value: *
footprint CRCW06031K50FKEA_RESC1608X55
pins: 1, 2

## CRCW06031M00FKEA
designator R?
Value: *
footprint CRCW06031M00FKEA_RESC1608X55
pins: 1, 2

## CRCW06032K00FKEA
designator R?
Value: *
footprint CRCW06032K00FKEA_RESC1608X55
pins: 1, 2

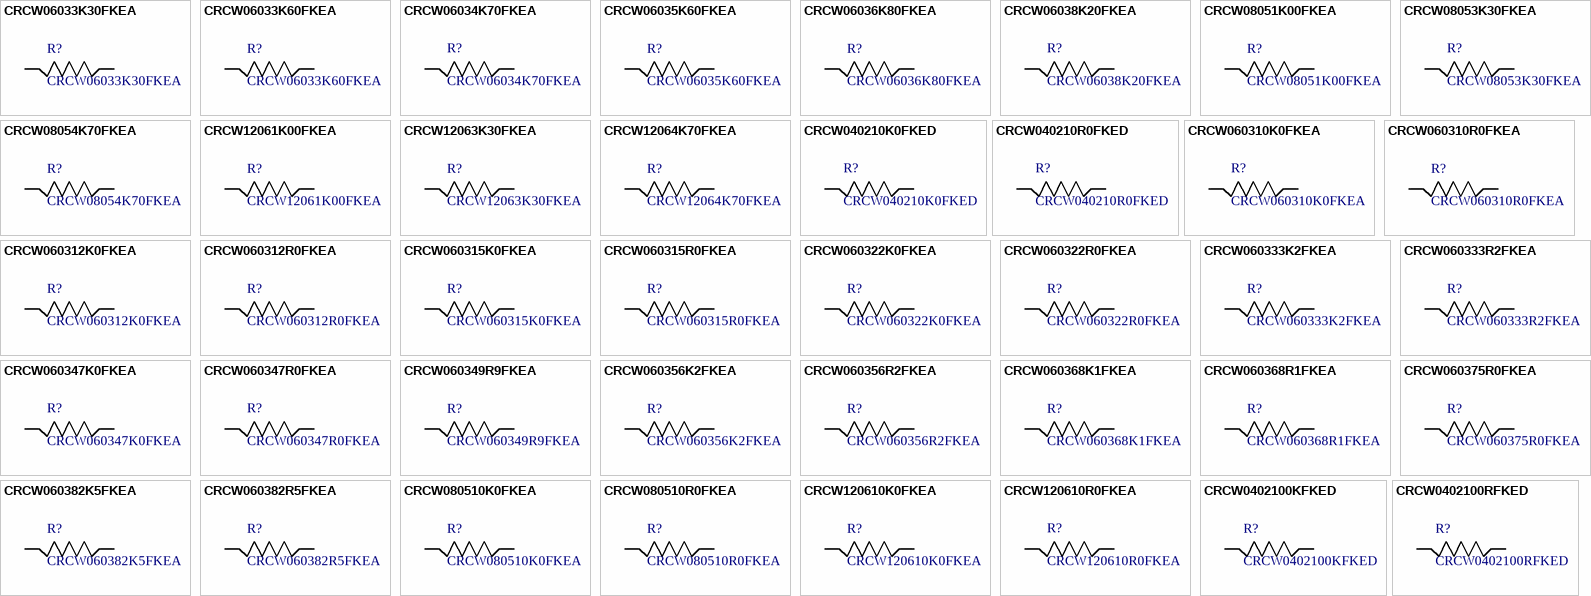
[diagram p4: symbols CRCW06033K30FKEA to CRCW0402100RFKED]

## CRCW06033K30FKEA
designator R?
Value: *
footprint CRCW06033K30FKEA_RESC1608X55
pins: 1, 2

## CRCW06033K60FKEA
designator R?
Value: *
footprint CRCW06033K60FKEA_RESC1608X55
pins: 1, 2

## CRCW06034K70FKEA
designator R?
Value: *
footprint CRCW06034K70FKEA_RESC1608X55
pins: 1, 2

## CRCW06035K60FKEA
designator R?
Value: *
footprint CRCW06035K60FKEA_RESC1608X55
pins: 1, 2

## CRCW06036K80FKEA
designator R?
Value: *
footprint CRCW06036K80FKEA_RESC1608X55
pins: 1, 2

## CRCW06038K20FKEA
designator R?
Value: *
footprint CRCW06038K20FKEA_RESC1608X55
pins: 1, 2

## CRCW08051K00FKEA
designator R?
Value: *
footprint CRCW08051K00FKEA_RESC2012X60
pins: 1, 2

## CRCW08053K30FKEA
designator R?
Value: *
footprint CRCW08053K30FKEA_RESC2012X60
pins: 1, 2

## CRCW08054K70FKEA
designator R?
Value: *
footprint CRCW08054K70FKEA_RESC2012X60
pins: 1, 2

## CRCW12061K00FKEA
designator R?
Value: *
footprint CRCW12061K00FKEA_RESC3216X65
pins: 1, 2

## CRCW12063K30FKEA
designator R?
Value: *
footprint CRCW12063K30FKEA_RESC3216X65
pins: 1, 2

## CRCW12064K70FKEA
designator R?
Value: *
footprint CRCW12064K70FKEA_RESC3216X65
pins: 1, 2

## CRCW040210K0FKED
designator R?
Value: *
footprint CRCW040210K0FKED_RESC1005X40
pins: 1, 2

## CRCW040210R0FKED
designator R?
Value: *
footprint CRCW040210R0FKED_RESC1005X40
pins: 1, 2

## CRCW060310K0FKEA
designator R?
Value: *
footprint CRCW060310K0FKEA_RESC1608X55
pins: 1, 2

## CRCW060310R0FKEA
designator R?
Value: *
footprint CRCW060310R0FKEA_RESC1608X55
pins: 1, 2

## CRCW060312K0FKEA
designator R?
Value: *
footprint CRCW060312K0FKEA_RESC1608X55
pins: 1, 2

## CRCW060312R0FKEA
designator R?
Value: *
footprint CRCW060312R0FKEA_RESC1608X55
pins: 1, 2

## CRCW060315K0FKEA
designator R?
Value: *
footprint CRCW060315K0FKEA_RESC1608X55
pins: 1, 2

## CRCW060315R0FKEA
designator R?
Value: *
footprint CRCW060315R0FKEA_RESC1608X55
pins: 1, 2

## CRCW060322K0FKEA
designator R?
Value: *
footprint CRCW060322K0FKEA_RESC1608X55
pins: 1, 2

## CRCW060322R0FKEA
designator R?
Value: *
footprint CRCW060322R0FKEA_RESC1608X55
pins: 1, 2

## CRCW060333K2FKEA
designator R?
Value: *
footprint CRCW060333K2FKEA_RESC1608X55
pins: 1, 2

## CRCW060333R2FKEA
designator R?
Value: *
footprint CRCW060333R2FKEA_RESC1608X55
pins: 1, 2

## CRCW060347K0FKEA
designator R?
Value: *
footprint CRCW060347K0FKEA_RESC1608X55
pins: 1, 2

## CRCW060347R0FKEA
designator R?
Value: *
footprint CRCW060347R0FKEA_RESC1608X55
pins: 1, 2

## CRCW060349R9FKEA
designator R?
Value: *
footprint CRCW060349R9FKEA_RESC1608X55
pins: 1, 2

## CRCW060356K2FKEA
designator R?
Value: *
footprint CRCW060356K2FKEA_RESC1608X55
pins: 1, 2

## CRCW060356R2FKEA
designator R?
Value: *
footprint CRCW060356R2FKEA_RESC1608X55
pins: 1, 2

## CRCW060368K1FKEA
designator R?
Value: *
footprint CRCW060368K1FKEA_RESC1608X55
pins: 1, 2

## CRCW060368R1FKEA
designator R?
Value: *
footprint CRCW060368R1FKEA_RESC1608X55
pins: 1, 2

## CRCW060375R0FKEA
designator R?
Value: *
footprint CRCW060375R0FKEA_RESC1608X55
pins: 1, 2

## CRCW060382K5FKEA
designator R?
Value: *
footprint CRCW060382K5FKEA_RESC1608X55
pins: 1, 2

## CRCW060382R5FKEA
designator R?
Value: *
footprint CRCW060382R5FKEA_RESC1608X55
pins: 1, 2

## CRCW080510K0FKEA
designator R?
Value: *
footprint CRCW080510K0FKEA_RESC2012X60
pins: 1, 2

## CRCW080510R0FKEA
designator R?
Value: *
footprint CRCW080510R0FKEA_RESC2012X60
pins: 1, 2

## CRCW120610K0FKEA
designator R?
Value: *
footprint CRCW120610K0FKEA_RESC3216X65
pins: 1, 2

## CRCW120610R0FKEA
designator R?
Value: *
footprint CRCW120610R0FKEA_RESC3216X65
pins: 1, 2

## CRCW0402100KFKED
designator R?
Value: *
footprint CRCW0402100KFKED_RESC1005X40
pins: 1, 2

## CRCW0402100RFKED
designator R?
Value: *
footprint CRCW0402100RFKED_RESC1005X40
pins: 1, 2

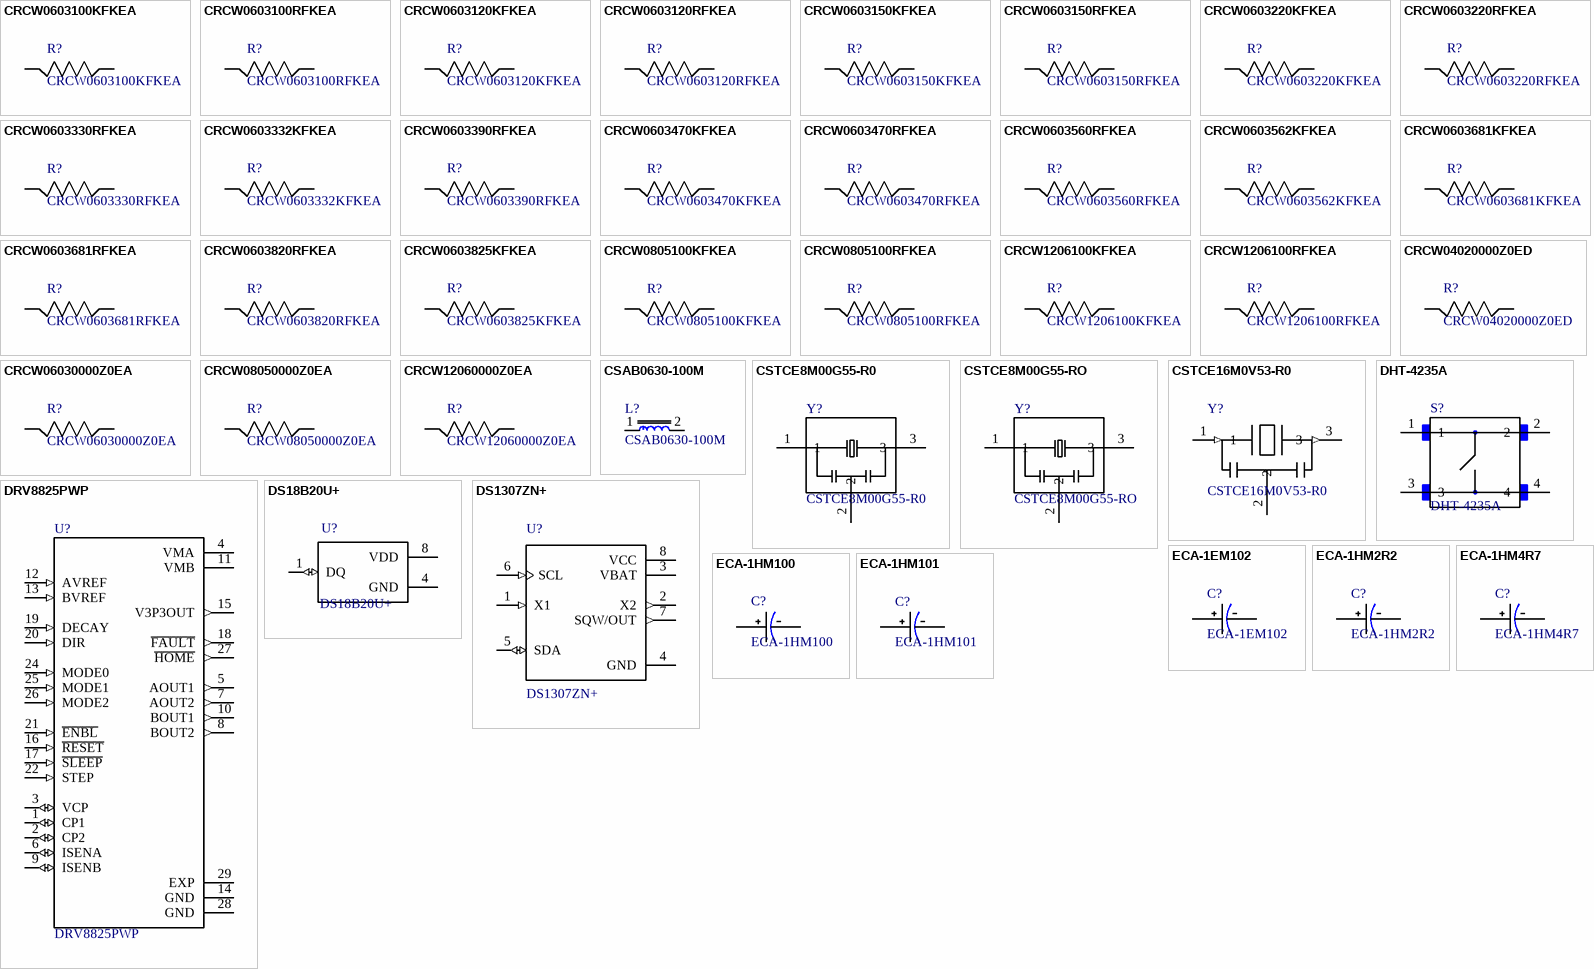
[diagram p5: symbols CRCW0603100KFKEA to ECA-1HM101]

## CRCW0603100KFKEA
designator R?
Value: *
footprint CRCW0603100KFKEA_RESC1608X55
pins: 1, 2

## CRCW0603100RFKEA
designator R?
Value: *
footprint CRCW0603100RFKEA_RESC1608X55
pins: 1, 2

## CRCW0603120KFKEA
designator R?
Value: *
footprint CRCW0603120KFKEA_RESC1608X55
pins: 1, 2

## CRCW0603120RFKEA
designator R?
Value: *
footprint CRCW0603120RFKEA_RESC1608X55
pins: 1, 2

## CRCW0603150KFKEA
designator R?
Value: *
footprint CRCW0603150KFKEA_RESC1608X55
pins: 1, 2

## CRCW0603150RFKEA
designator R?
Value: *
footprint CRCW0603150RFKEA_RESC1608X55
pins: 1, 2

## CRCW0603220KFKEA
designator R?
Value: *
footprint CRCW0603220KFKEA_RESC1608X55
pins: 1, 2

## CRCW0603220RFKEA
designator R?
Value: *
footprint CRCW0603220RFKEA_RESC1608X55
pins: 1, 2

## CRCW0603330RFKEA
designator R?
Value: *
footprint CRCW0603330RFKEA_RESC1608X55
pins: 1, 2

## CRCW0603332KFKEA
designator R?
Value: *
footprint CRCW0603332KFKEA_RESC1608X55
pins: 1, 2

## CRCW0603390RFKEA
designator R?
Value: *
footprint CRCW0603390RFKEA_RESC1608X55
pins: 1, 2

## CRCW0603470KFKEA
designator R?
Value: *
footprint CRCW0603470KFKEA_RESC1608X55
pins: 1, 2

## CRCW0603470RFKEA
designator R?
Value: *
footprint CRCW0603470RFKEA_RESC1608X55
pins: 1, 2

## CRCW0603560RFKEA
designator R?
Value: *
footprint CRCW0603560RFKEA_RESC1608X55
pins: 1, 2

## CRCW0603562KFKEA
designator R?
Value: *
footprint CRCW0603562KFKEA_RESC1608X55
pins: 1, 2

## CRCW0603681KFKEA
designator R?
Value: *
footprint CRCW0603681KFKEA_RESC1608X55
pins: 1, 2

## CRCW0603681RFKEA
designator R?
Value: *
footprint CRCW0603681RFKEA_RESC1608X55
pins: 1, 2

## CRCW0603820RFKEA
designator R?
Value: *
footprint CRCW0603820RFKEA_RESC1608X55
pins: 1, 2

## CRCW0603825KFKEA
designator R?
Value: *
footprint CRCW0603825KFKEA_RESC1608X55
pins: 1, 2

## CRCW0805100KFKEA
designator R?
Value: *
footprint CRCW0805100KFKEA_RESC2012X60
pins: 1, 2

## CRCW0805100RFKEA
designator R?
Value: *
footprint CRCW0805100RFKEA_RESC2012X60
pins: 1, 2

## CRCW1206100KFKEA
designator R?
Value: *
footprint CRCW1206100KFKEA_RESC3216X65
pins: 1, 2

## CRCW1206100RFKEA
designator R?
Value: *
footprint CRCW1206100RFKEA_RESC3216X65
pins: 1, 2

## CRCW04020000Z0ED
designator R?
Value: *
footprint CRCW04020000Z0ED_RESC1005X40
pins: 1, 2

## CRCW06030000Z0EA
designator R?
Value: *
footprint CRCW06030000Z0EA_RESC1608X55
pins: 1, 2

## CRCW08050000Z0EA
designator R?
Value: *
footprint CRCW08050000Z0EA_RESC2012X60
pins: 1, 2

## CRCW12060000Z0EA
designator R?
Value: *
footprint CRCW12060000Z0EA_RESC3216X65
pins: 1, 2

## CSAB0630-100M
designator L?
Value: *
footprint INDC6060X300
pins: 1, 2

## CSTCE8M00G55-R0
designator Y?
Value: *
footprint OSC_CSTCE8M00G55-R0
pins: 1, 2 (power), 3

## CSTCE8M00G55-RO
designator Y?
Value: *
footprint OSC_CSTCE8M00G55-RO
pins: 1, 2 (power), 3

## CSTCE16M0V53-R0
designator Y?
Value: *
footprint OSC_CSTCE16M0V53-R0
pins: 1 (in), 2, 3 (out)

## DHT-4235A
designator S?
Value: *
footprint SW_DHT-4235A
pins: 1, 2, 3, 4

## DRV8825PWP
designator U?
Value: *
footprint DRV8825PWP_SOP65P640X120-28N
pins: 1 CP1 (io), 2 CP2 (io), 3 VCP (io), 4 VMA (power), 5 AOUT1 (out), 6 ISENA (io), 7 AOUT2 (out), 8 BOUT2 (out), 9 ISENB (io), 10 BOUT1 (out), 11 VMB (power), 12 AVREF (in), 13 BVREF (in), 14 GND, 15 V3P3OUT (out), 16 ~{RESET} (in), 17 ~{SLEEP} (in), 18 ~{FAULT} (out), 19 DECAY (in), 20 DIR (in), 21 ~{ENBL} (in), 22 STEP (in), 24 MODE0 (in), 25 MODE1 (in), 26 MODE2 (in), 27 ~{HOME} (out), 28 GND, 29 EXP

## DS18B20U+
designator U?
Value: *
footprint SOP65P490X95-8N
pins: 1 DQ (io), 4 GND (power), 8 VDD (power)

## DS1307ZN+
designator U?
Value: *
footprint DS1307ZN+_SOIC127P600X175-8N
pins: 1 X1 (in), 2 X2 (out), 3 VBAT (power), 4 GND (power), 5 SDA (io), 6 SCL (in), 7 SQW/OUT (out), 8 VCC (power)

## ECA-1EM102
designator C?
Value: *
footprint ECA-1EM102_CAPPRD500W60D1000H2000B_ECA-1EM102(Primary)
pins: NEG, POS

## ECA-1HM2R2
designator C?
Value: *
footprint ECA-1HM2R2_CAPPRD200W50D500H1100B_ECA-1HM2R2(Primary)
pins: NEG, POS

## ECA-1HM4R7
designator C?
Value: *
footprint CAPPRD200W50D500H1100B_ECA-1HM4R7(Primary)
pins: NEG, POS

## ECA-1HM100
designator C?
Value: *
footprint ECA-1HM100_CAPPRD200W50D500H1100B_ECA-1HM100(Primary)
pins: NEG, POS

## ECA-1HM101
designator C?
Value: *
footprint CAPPRD350W60D800H1150B_ECA-1HM101(Primary)
pins: NEG, POS

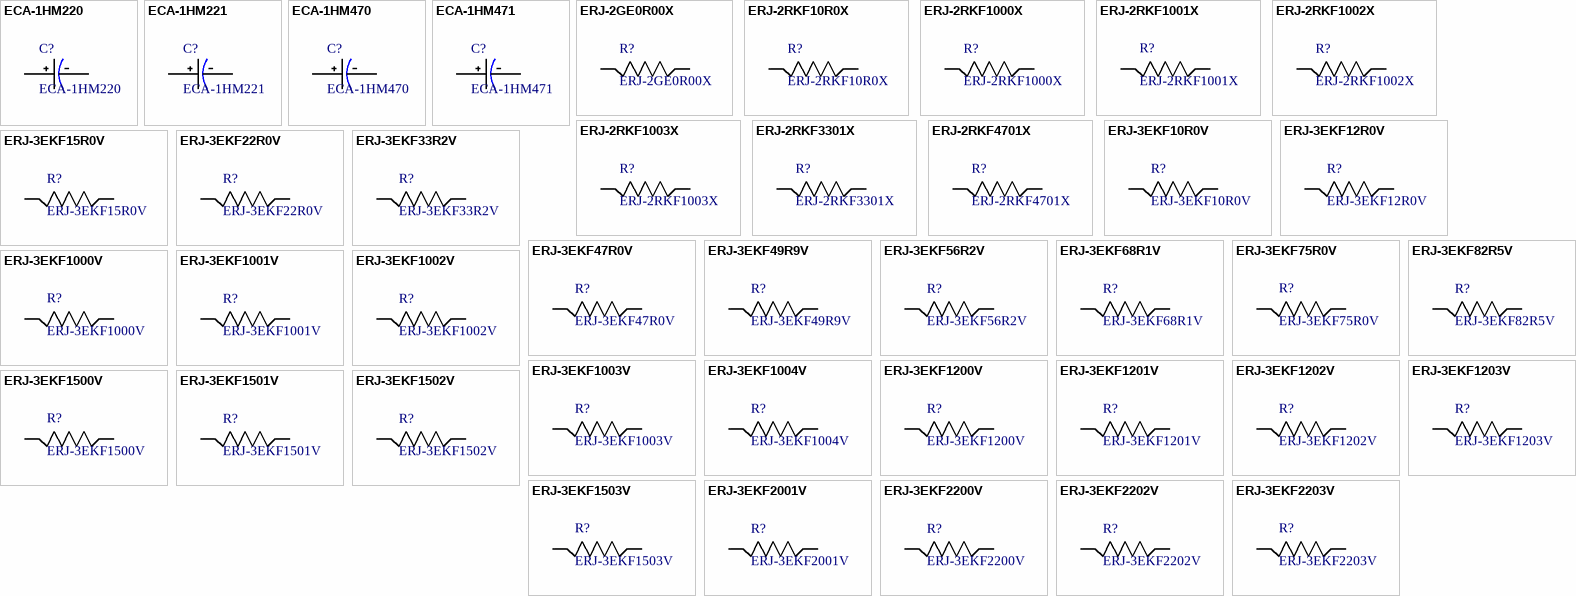
[diagram p6: symbols ECA-1HM220 to ERJ-3EKF2203V]

## ECA-1HM220
designator C?
Value: *
footprint ECA-1HM220_CAPPRD200W50D500H1100B_ECA-1HM220(Primary)
pins: NEG, POS

## ECA-1HM221
designator C?
Value: *
footprint CAPPRD500W60D1000H1250B_ECA-1HM221(Primary)
pins: NEG, POS

## ECA-1HM470
designator C?
Value: *
footprint CAPPRD250W50D630H1120B_ECA-1HM470(Primary)
pins: NEG, POS

## ECA-1HM471
designator C?
Value: *
footprint CAPPRD500W60D1000H2000B_ECA-1HM471(Primary)
pins: NEG, POS

## ERJ-2GE0R00X
designator R?
Value: *
footprint ERJ-2GE0R00X_RESC1005X40
pins: 1, 2

## ERJ-2RKF10R0X
designator R?
Value: *
footprint ERJ-2RKF10R0X_RESC1005X40
pins: 1, 2

## ERJ-2RKF1000X
designator R?
Value: *
footprint ERJ-2RKF1000X_RESC1005X40
pins: 1, 2

## ERJ-2RKF1001X
designator R?
Value: *
footprint ERJ-2RKF1001X_RESC1005X40
pins: 1, 2

## ERJ-2RKF1002X
designator R?
Value: *
footprint ERJ-2RKF1002X_RESC1005X40
pins: 1, 2

## ERJ-2RKF1003X
designator R?
Value: *
footprint ERJ-2RKF1003X_RESC1005X40
pins: 1, 2

## ERJ-2RKF3301X
designator R?
Value: *
footprint ERJ-2RKF3301X_RESC1005X40
pins: 1, 2

## ERJ-2RKF4701X
designator R?
Value: *
footprint ERJ-2RKF4701X_RESC1005X40
pins: 1, 2

## ERJ-3EKF10R0V
designator R?
Value: *
footprint ERJ-3EKF10R0V_RESC1608X55
pins: 1, 2

## ERJ-3EKF12R0V
designator R?
Value: *
footprint ERJ-3EKF12R0V_RESC1608X55
pins: 1, 2

## ERJ-3EKF15R0V
designator R?
Value: *
footprint ERJ-3EKF15R0V_RESC1608X55
pins: 1, 2

## ERJ-3EKF22R0V
designator R?
Value: *
footprint ERJ-3EKF22R0V_RESC1608X55
pins: 1, 2

## ERJ-3EKF33R2V
designator R?
Value: *
footprint ERJ-3EKF33R2V_RESC1608X55
pins: 1, 2

## ERJ-3EKF47R0V
designator R?
Value: *
footprint ERJ-3EKF47R0V_RESC1608X55
pins: 1, 2

## ERJ-3EKF49R9V
designator R?
Value: *
footprint ERJ-3EKF49R9V_RESC1608X55
pins: 1, 2

## ERJ-3EKF56R2V
designator R?
Value: *
footprint ERJ-3EKF56R2V_RESC1608X55
pins: 1, 2

## ERJ-3EKF68R1V
designator R?
Value: *
footprint ERJ-3EKF68R1V_RESC1608X55
pins: 1, 2

## ERJ-3EKF75R0V
designator R?
Value: *
footprint ERJ-3EKF75R0V_RESC1608X55
pins: 1, 2

## ERJ-3EKF82R5V
designator R?
Value: *
footprint ERJ-3EKF82R5V_RESC1608X55
pins: 1, 2

## ERJ-3EKF1000V
designator R?
Value: *
footprint ERJ-3EKF1000V_RESC1608X55
pins: 1, 2

## ERJ-3EKF1001V
designator R?
Value: *
footprint ERJ-3EKF1001V_RESC1608X55
pins: 1, 2

## ERJ-3EKF1002V
designator R?
Value: *
footprint ERJ-3EKF1002V_RESC1608X55
pins: 1, 2

## ERJ-3EKF1003V
designator R?
Value: *
footprint ERJ-3EKF1003V_RESC1608X55
pins: 1, 2

## ERJ-3EKF1004V
designator R?
Value: *
footprint ERJ-3EKF1004V_RESC1608X55
pins: 1, 2

## ERJ-3EKF1200V
designator R?
Value: *
footprint ERJ-3EKF1200V_RESC1608X55
pins: 1, 2

## ERJ-3EKF1201V
designator R?
Value: *
footprint ERJ-3EKF1201V_RESC1608X55
pins: 1, 2

## ERJ-3EKF1202V
designator R?
Value: *
footprint ERJ-3EKF1202V_RESC1608X55
pins: 1, 2

## ERJ-3EKF1203V
designator R?
Value: *
footprint ERJ-3EKF1203V_RESC1608X55
pins: 1, 2

## ERJ-3EKF1500V
designator R?
Value: *
footprint ERJ-3EKF1500V_RESC1608X55
pins: 1, 2

## ERJ-3EKF1501V
designator R?
Value: *
footprint ERJ-3EKF1501V_RESC1608X55
pins: 1, 2

## ERJ-3EKF1502V
designator R?
Value: *
footprint ERJ-3EKF1502V_RESC1608X55
pins: 1, 2

## ERJ-3EKF1503V
designator R?
Value: *
footprint ERJ-3EKF1503V_RESC1608X55
pins: 1, 2

## ERJ-3EKF2001V
designator R?
Value: *
footprint ERJ-3EKF2001V_RESC1608X55
pins: 1, 2

## ERJ-3EKF2200V
designator R?
Value: *
footprint ERJ-3EKF2200V_RESC1608X55
pins: 1, 2

## ERJ-3EKF2202V
designator R?
Value: *
footprint ERJ-3EKF2202V_RESC1608X55
pins: 1, 2

## ERJ-3EKF2203V
designator R?
Value: *
footprint ERJ-3EKF2203V_RESC1608X55
pins: 1, 2

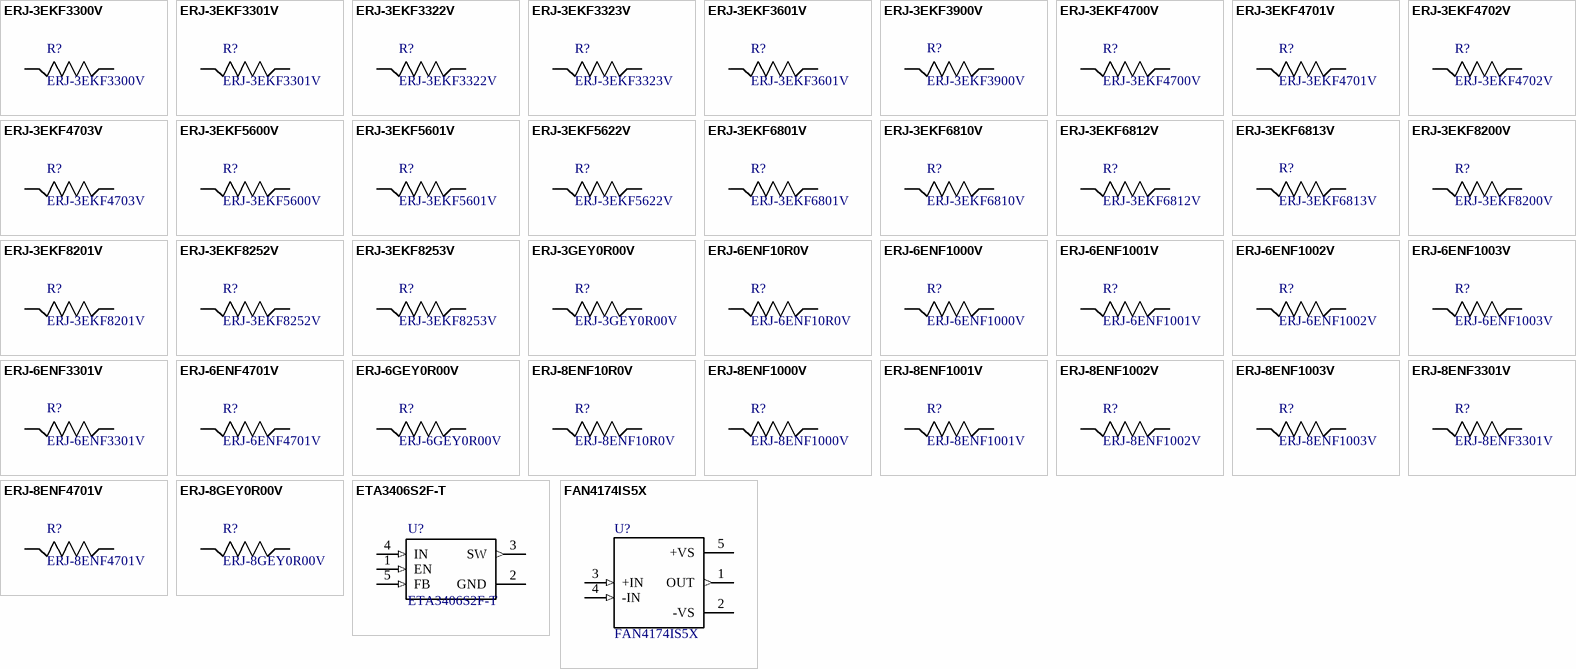
[diagram p7: symbols ERJ-3EKF3300V to FAN4174IS5X]

## ERJ-3EKF3300V
designator R?
Value: *
footprint ERJ-3EKF3300V_RESC1608X55
pins: 1, 2

## ERJ-3EKF3301V
designator R?
Value: *
footprint ERJ-3EKF3301V_RESC1608X55
pins: 1, 2

## ERJ-3EKF3322V
designator R?
Value: *
footprint ERJ-3EKF3322V_RESC1608X55
pins: 1, 2

## ERJ-3EKF3323V
designator R?
Value: *
footprint ERJ-3EKF3323V_RESC1608X55
pins: 1, 2

## ERJ-3EKF3601V
designator R?
Value: *
footprint ERJ-3EKF3601V_RESC1608X55
pins: 1, 2

## ERJ-3EKF3900V
designator R?
Value: *
footprint ERJ-3EKF3900V_RESC1608X55
pins: 1, 2

## ERJ-3EKF4700V
designator R?
Value: *
footprint ERJ-3EKF4700V_RESC1608X55
pins: 1, 2

## ERJ-3EKF4701V
designator R?
Value: *
footprint ERJ-3EKF4701V_RESC1608X55
pins: 1, 2

## ERJ-3EKF4702V
designator R?
Value: *
footprint ERJ-3EKF4702V_RESC1608X55
pins: 1, 2

## ERJ-3EKF4703V
designator R?
Value: *
footprint ERJ-3EKF4703V_RESC1608X55
pins: 1, 2

## ERJ-3EKF5600V
designator R?
Value: *
footprint ERJ-3EKF5600V_RESC1608X55
pins: 1, 2

## ERJ-3EKF5601V
designator R?
Value: *
footprint ERJ-3EKF5601V_RESC1608X55
pins: 1, 2

## ERJ-3EKF5622V
designator R?
Value: *
footprint ERJ-3EKF5622V_RESC1608X55
pins: 1, 2

## ERJ-3EKF6801V
designator R?
Value: *
footprint ERJ-3EKF6801V_RESC1608X55
pins: 1, 2

## ERJ-3EKF6810V
designator R?
Value: *
footprint ERJ-3EKF6810V_RESC1608X55
pins: 1, 2

## ERJ-3EKF6812V
designator R?
Value: *
footprint ERJ-3EKF6812V_RESC1608X55
pins: 1, 2

## ERJ-3EKF6813V
designator R?
Value: *
footprint ERJ-3EKF6813V_RESC1608X55
pins: 1, 2

## ERJ-3EKF8200V
designator R?
Value: *
footprint ERJ-3EKF8200V_RESC1608X55
pins: 1, 2

## ERJ-3EKF8201V
designator R?
Value: *
footprint ERJ-3EKF8201V_RESC1608X55
pins: 1, 2

## ERJ-3EKF8252V
designator R?
Value: *
footprint ERJ-3EKF8252V_RESC1608X55
pins: 1, 2

## ERJ-3EKF8253V
designator R?
Value: *
footprint ERJ-3EKF8253V_RESC1608X55
pins: 1, 2

## ERJ-3GEY0R00V
designator R?
Value: *
footprint ERJ-3GEY0R00V_RESC1608X55
pins: 1, 2

## ERJ-6ENF10R0V
designator R?
Value: *
footprint ERJ-6ENF10R0V_RESC2012X70
pins: 1, 2

## ERJ-6ENF1000V
designator R?
Value: *
footprint ERJ-6ENF1000V_RESC2012X70
pins: 1, 2

## ERJ-6ENF1001V
designator R?
Value: *
footprint ERJ-6ENF1001V_RESC2012X70
pins: 1, 2

## ERJ-6ENF1002V
designator R?
Value: *
footprint ERJ-6ENF1002V_RESC2012X70
pins: 1, 2

## ERJ-6ENF1003V
designator R?
Value: *
footprint ERJ-6ENF1003V_RESC2012X70
pins: 1, 2

## ERJ-6ENF3301V
designator R?
Value: *
footprint ERJ-6ENF3301V_RESC2012X70
pins: 1, 2

## ERJ-6ENF4701V
designator R?
Value: *
footprint ERJ-6ENF4701V_RESC2012X70
pins: 1, 2

## ERJ-6GEY0R00V
designator R?
Value: *
footprint RESC2012X70
pins: 1, 2

## ERJ-8ENF10R0V
designator R?
Value: *
footprint ERJ-8ENF10R0V_RESC3216X70
pins: 1, 2

## ERJ-8ENF1000V
designator R?
Value: *
footprint ERJ-8ENF1000V_RESC3216X70
pins: 1, 2

## ERJ-8ENF1001V
designator R?
Value: *
footprint ERJ-8ENF1001V_RESC3216X70
pins: 1, 2

## ERJ-8ENF1002V
designator R?
Value: *
footprint ERJ-8ENF1002V_RESC3216X70
pins: 1, 2

## ERJ-8ENF1003V
designator R?
Value: *
footprint ERJ-8ENF1003V_RESC3216X70
pins: 1, 2

## ERJ-8ENF3301V
designator R?
Value: *
footprint ERJ-8ENF3301V_RESC3216X70
pins: 1, 2

## ERJ-8ENF4701V
designator R?
Value: *
footprint ERJ-8ENF4701V_RESC3216X70
pins: 1, 2

## ERJ-8GEY0R00V
designator R?
Value: *
footprint RESC3216X70
pins: 1, 2

## ETA3406S2F-T
designator U?
Value: *
footprint SOT95P280X130-5N
pins: 1 EN (in), 2 GND (power), 3 SW (out), 4 IN (in), 5 FB (in)

## FAN4174IS5X
designator U?
Value: *
footprint FAN4174IS5X_SOT95P270X145-5N
pins: 1 OUT (out), 2 -VS (power), 3 +IN (in), 4 -IN (in), 5 +VS (power)

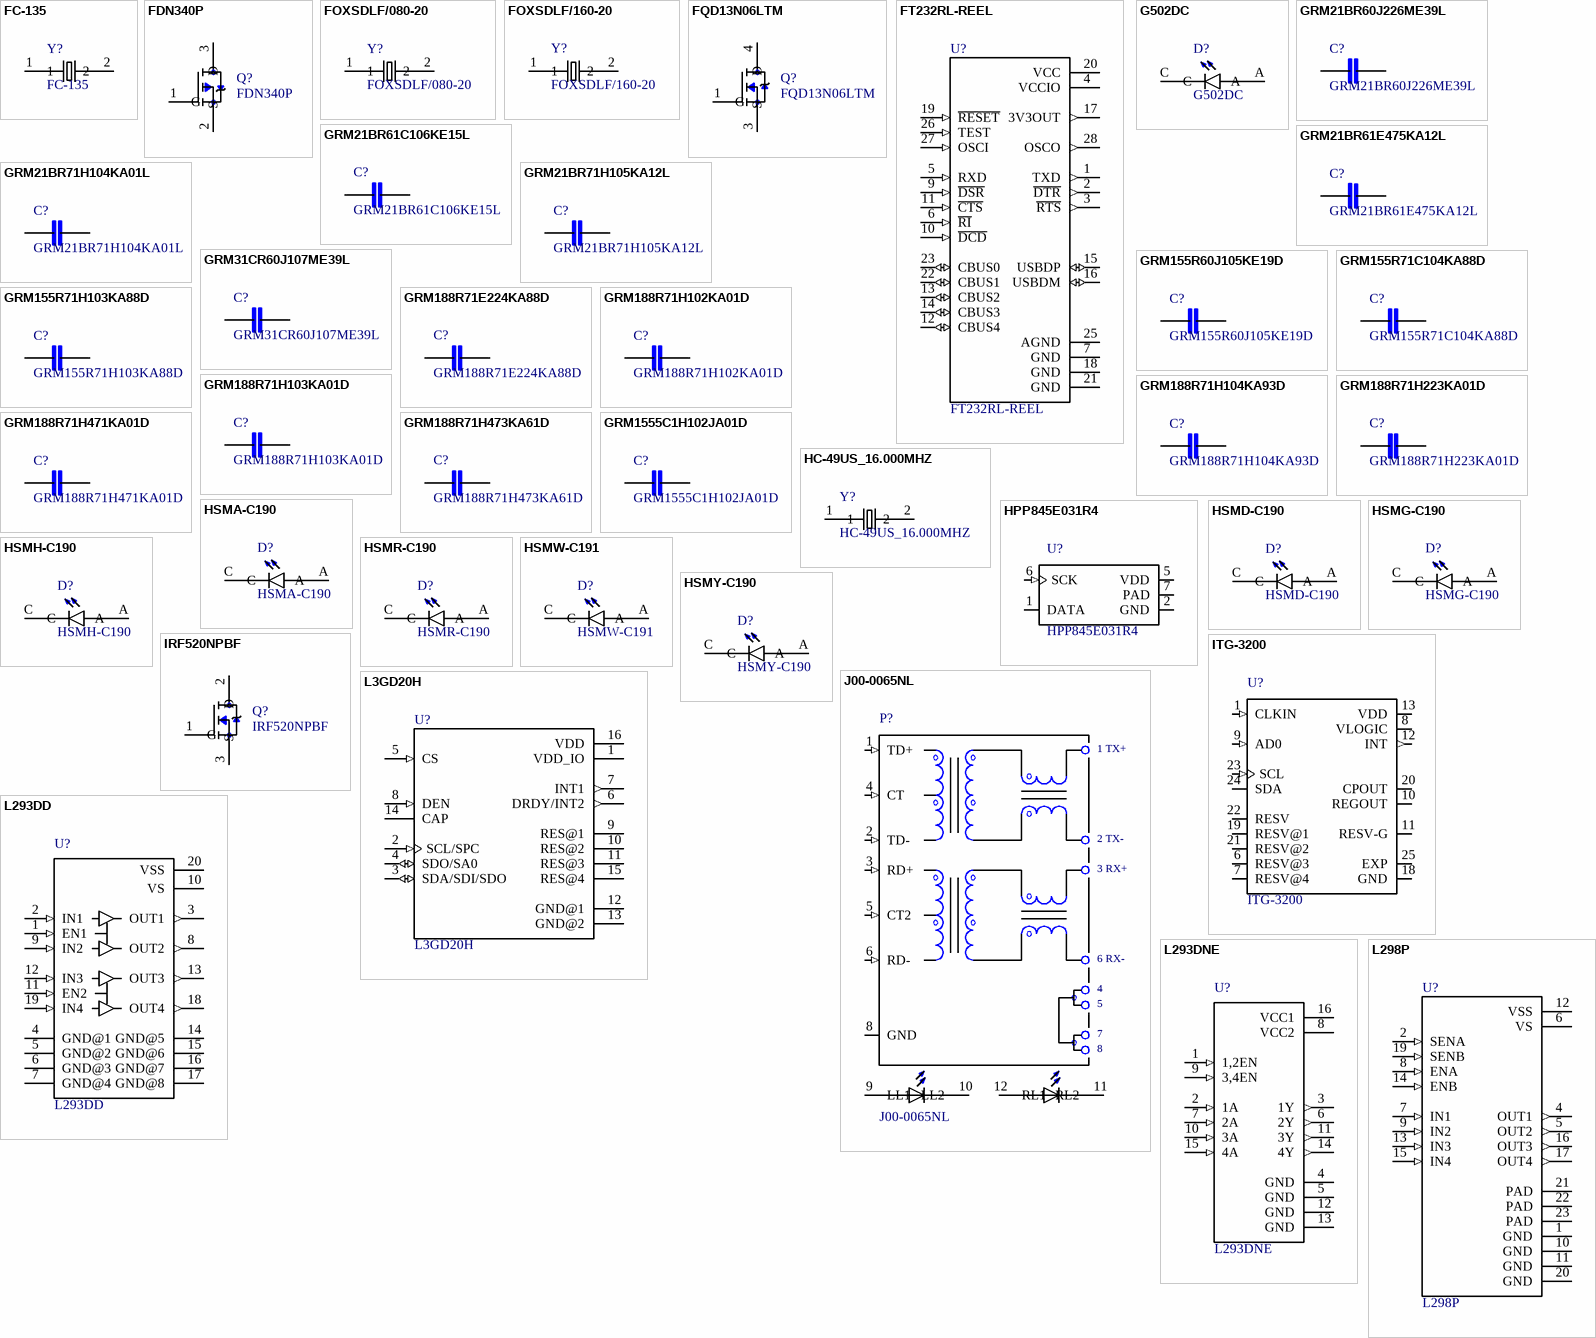
[diagram p8: symbols FC-135 to L298P]

## FC-135
designator Y?
Value: *
footprint XTAL320X150X90
pins: 1, 2

## FDN340P
designator Q?
Value: *
footprint FDN340P_SOT95P240X120-3N
pins: 1 G, 2 S, 3 D

## FOXSDLF/080-20
designator Y?
Value: *
footprint FOXSDLF/080-20_XTAL1170X500X450
pins: 1, 2

## FOXSDLF/160-20
designator Y?
Value: *
footprint XTAL1170X500X450
pins: 1, 2

## FQD13N06LTM
designator Q?
Value: *
footprint FQD13N06LTM_TO229P991X239-3N
pins: 1 G, 3 S, 4 D

## FT232RL-REEL
designator U?
Value: *
footprint SOP65P780X200-28N
pins: 1 TXD (out), 2 ~{DTR} (out), 3 ~{RTS} (out), 4 VCCIO (power), 5 RXD (in), 6 ~{RI} (in), 7 GND (power), 9 ~{DSR} (in), 10 ~{DCD} (in), 11 ~{CTS} (in), 12 CBUS4 (io), 13 CBUS2 (io), 14 CBUS3 (io), 15 USBDP (io), 16 USBDM (io), 17 3V3OUT (out), 18 GND (power), 19 ~{RESET} (in), 20 VCC (power), 21 GND (power), 22 CBUS1 (io), 23 CBUS0 (io), 25 AGND (power), 26 TEST (in), 27 OSCI (in), 28 OSCO (out)

## G502DC
designator D?
Value: *
footprint LED_G502DC_G502DC(Primary)
pins: A, C

## GRM21BR60J226ME39L
designator C?
Value: *
footprint CAPC2012X140
pins: 1, 2

## GRM21BR61C106KE15L
designator C?
Value: *
footprint GRM21BR61C106KE15L_CAPC2012X135
pins: 1, 2

## GRM21BR61E475KA12L
designator C?
Value: *
footprint GRM21BR61E475KA12L_CAPC2012X135
pins: 1, 2

## GRM21BR71H104KA01L
designator C?
Value: *
footprint GRM21BR71H104KA01L_CAPC2012X135
pins: 1, 2

## GRM21BR71H105KA12L
designator C?
Value: *
footprint CAPC2012X135
pins: 1, 2

## GRM31CR60J107ME39L
designator C?
Value: *
footprint CAPC3216X190
pins: 1, 2

## GRM155R60J105KE19D
designator C?
Value: *
footprint GRM155R60J105KE19D_CAPC1005X60
pins: 1, 2

## GRM155R71C104KA88D
designator C?
Value: *
footprint GRM155R71C104KA88D_CAPC1005X60
pins: 1, 2

## GRM155R71H103KA88D
designator C?
Value: *
footprint GRM155R71H103KA88D_CAPC1005X60
pins: 1, 2

## GRM188R71E224KA88D
designator C?
Value: *
footprint GRM188R71E224KA88D_CAPC1608X90
pins: 1, 2

## GRM188R71H102KA01D
designator C?
Value: *
footprint GRM188R71H102KA01D_CAPC1608X90
pins: 1, 2

## GRM188R71H103KA01D
designator C?
Value: *
footprint GRM188R71H103KA01D_CAPC1608X90
pins: 1, 2

## GRM188R71H104KA93D
designator C?
Value: *
footprint CAPC1608X90
pins: 1, 2

## GRM188R71H223KA01D
designator C?
Value: *
footprint GRM188R71H223KA01D_CAPC1608X90
pins: 1, 2

## GRM188R71H471KA01D
designator C?
Value: *
footprint GRM188R71H471KA01D_CAPC1608X90
pins: 1, 2

## GRM188R71H473KA61D
designator C?
Value: *
footprint GRM188R71H473KA61D_CAPC1608X90
pins: 1, 2

## GRM1555C1H102JA01D
designator C?
Value: *
footprint GRM1555C1H102JA01D_CAPC1005X60
pins: 1, 2

## HC-49US_16.000MHZ
designator Y?
Value: *
footprint XTAL_HC-49US-16.000MHZ
pins: 1, 2

## HPP845E031R4
designator U?
Value: *
footprint SON100P300X300X113-7N
pins: 1 DATA (io), 2 GND (power), 5 VDD (power), 6 SCK (in), 7 PAD (power)

## HSMA-C190
designator D?
Value: *
footprint HSMA-C190_LEDM1608X80_HSMA-C190(Primary)
pins: A, C

## HSMD-C190
designator D?
Value: *
footprint HSMD-C190_LEDM1608X80_HSMD-C190(Primary)
pins: A, C

## HSMG-C190
designator D?
Value: *
footprint HSMG-C190_LEDM1608X80_HSMG-C190(Primary)
pins: A, C

## HSMH-C190
designator D?
Value: *
footprint HSMH-C190_LEDM1608X80_HSMH-C190(Primary)
pins: A, C

## HSMR-C190
designator D?
Value: *
footprint HSMR-C190_LEDM1608X80_HSMR-C190(Primary)
pins: A, C

## HSMW-C191
designator D?
Value: *
footprint LEDM1608X60_HSMW-C191(Primary)
pins: A, C

## HSMY-C190
designator D?
Value: *
footprint HSMY-C190_LEDM1608X80_HSMY-C190(Primary)
pins: A, C

## IRF520NPBF
designator Q?
Value: *
footprint TO-220-3
pins: 1 G, 2 D, 3 S

## ITG-3200
designator U?
Value: *
footprint QFN50P400X400X95-25N
pins: 1 CLKIN (in), 6 RESV@3, 7 RESV@4, 8 VLOGIC (power), 9 AD0 (in), 10 REGOUT, 11 RESV-G, 12 INT (out), 13 VDD (power), 18 GND (power), 19 RESV@1, 20 CPOUT, 21 RESV@2, 22 RESV, 23 SCL (in), 24 SDA (io), 25 EXP (power)

## J00-0065NL
designator P?
Value: *
footprint PULSE_J00-0065NL
pins: 1 TD+ (in), 2 TD- (in), 3 RD+ (in), 4 CT (in), 5 CT2 (in), 6 RD- (in), 8 GND, 9 LL1, 10 LL2, 11 RL2, 12 RL1
text: 1 TX+; 2 TX-; 3 RX+; 6 RX-; 7

## L3GD20H
designator U?
Value: *
footprint LGA16R50P7X5_300X300X100
pins: 1 VDD_IO (power), 2 SCL/SPC (in), 3 SDA/SDI/SDO (io), 4 SDO/SA0 (io), 5 CS (in), 6 DRDY/INT2 (out), 7 INT1 (out), 8 DEN (in), 9 RES@1 (power), 10 RES@2 (power), 11 RES@3 (power), 12 GND@1 (power), 13 GND@2 (power), 14 CAP, 15 RES@4 (power), 16 VDD (power)

## L293DD
designator U?
Value: *
footprint SOIC127P1033X265-20N
pins: 1 EN1 (in), 2 IN1 (in), 3 OUT1 (out), 4 GND@1, 5 GND@2, 6 GND@3, 7 GND@4, 8 OUT2 (out), 9 IN2 (in), 10 VS (power), 11 EN2 (in), 12 IN3 (in), 13 OUT3 (out), 14 GND@5, 15 GND@6, 16 GND@7, 17 GND@8, 18 OUT4 (out), 19 IN4 (in), 20 VSS (power)

## L293DNE
designator U?
Value: *
footprint DIP762W46P254L1931H508Q16B
pins: 1 1,2EN (in), 2 1A (in), 3 1Y (out), 4 GND, 5 GND, 6 2Y (out), 7 2A (in), 8 VCC2 (power), 9 3,4EN (in), 10 3A (in), 11 3Y (out), 12 GND, 13 GND, 14 4Y (out), 15 4A (in), 16 VCC1 (power)

## L298P
designator U?
Value: *
footprint SOIC127P1420X360-20N
pins: 1 GND, 2 SENA (in), 4 OUT1 (out), 5 OUT2 (out), 6 VS (power), 7 IN1 (in), 8 ENA (in), 9 IN2 (in), 10 GND, 11 GND, 12 VSS (power), 13 IN3 (in), 14 ENB (in), 15 IN4 (in), 16 OUT3 (out), 17 OUT4 (out), 19 SENB (in), 20 GND, 21 PAD, 22 PAD, 23 PAD

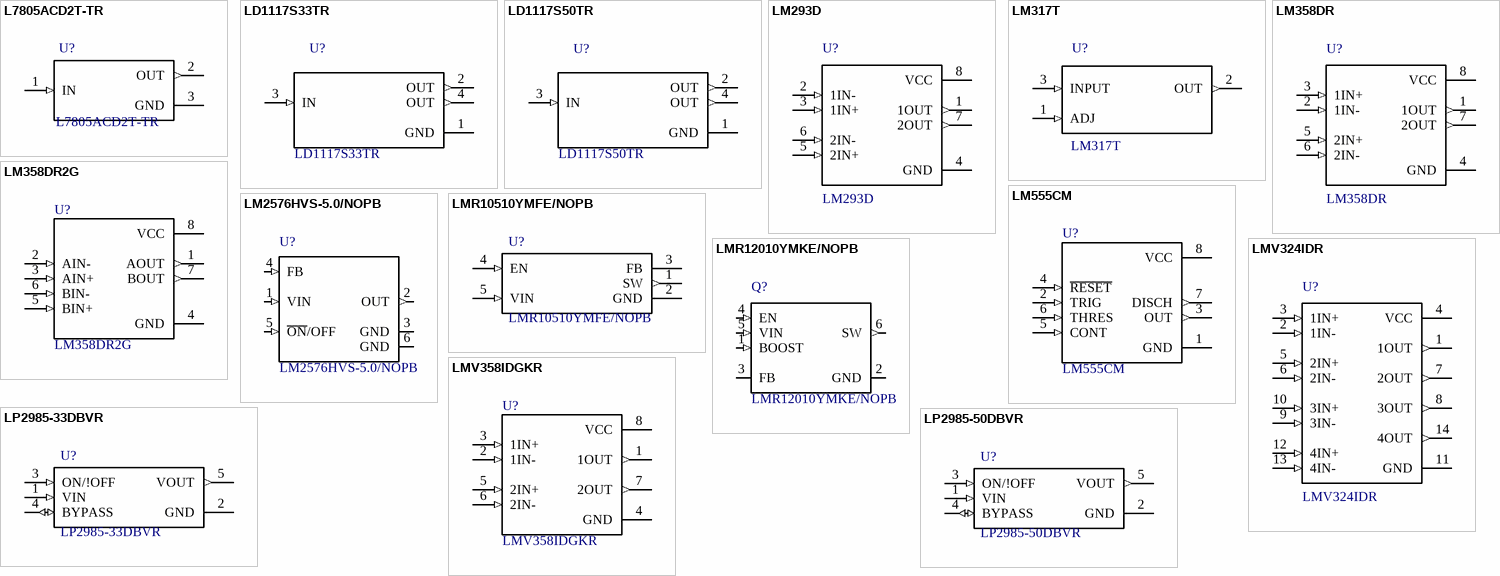
[diagram p9: symbols L7805ACD2T-TR to LP2985-50DBVR]

## L7805ACD2T-TR
designator U?
Value: *
footprint TO254P1515X470-3N
pins: 1 IN (in), 2 OUT (out), 3 GND (power)

## LD1117S33TR
designator U?
Value: *
footprint LD1117S33TR_SOT230P700X180-4N
pins: 1 GND (power), 2 OUT (out), 3 IN (in), 4 OUT (out)

## LD1117S50TR
designator U?
Value: *
footprint LD1117S50TR_SOT230P700X180-4N
pins: 1 GND (power), 2 OUT (out), 3 IN (in), 4 OUT (out)

## LM293D
designator U?
Value: *
footprint LM293D_SOIC127P600X175-8N
pins: 1 1OUT (out), 2 1IN- (in), 3 1IN+ (in), 4 GND, 5 2IN+ (in), 6 2IN- (in), 7 2OUT (out), 8 VCC (power)

## LM317T
designator U?
Value: *
footprint TO254P460X1020X1945-3P
pins: 1 ADJ (in), 2 OUT (out), 3 INPUT (in)

## LM358DR
designator U?
Value: *
footprint LM358DR_SOIC127P600X175-8N
pins: 1 1OUT (out), 2 1IN- (in), 3 1IN+ (in), 4 GND, 5 2IN+ (in), 6 2IN- (in), 7 2OUT (out), 8 VCC (power)

## LM358DR2G
designator U?
Value: *
footprint LM358DR2G_SOIC127P600X175-8N
pins: 1 AOUT (out), 2 AIN- (in), 3 AIN+ (in), 4 GND, 5 BIN+ (in), 6 BIN- (in), 7 BOUT (out), 8 VCC (power)

## LM555CM
designator U?
Value: *
footprint LM555CM_SOIC127P600X175-8N
pins: 1 GND, 2 TRIG (in), 3 OUT (out), 4 ~{RESET} (in), 5 CONT (in), 6 THRES (in), 7 DISCH (out), 8 VCC (power)

## LM2576HVS-5.0/NOPB
designator U?
Value: *
footprint TO170P1435X465-6N
pins: 1 VIN (in), 2 OUT (out), 3 GND (power), 4 FB (in), 5 ~{ON}/OFF (in), 6 GND (power)

## LMR10510YMFE/NOPB
designator U?
Value: *
footprint LMR10510YMFE/NOPB_SOT95P280X145-5N
pins: 1 SW (out), 2 GND (power), 3 FB, 4 EN (in), 5 VIN (in)

## LMR12010YMKE/NOPB
designator Q?
Value: *
footprint SOT95P280X110-6N
pins: 1 BOOST (in), 2 GND (power), 3 FB, 4 EN (in), 5 VIN (in), 6 SW (out)

## LMV324IDR
designator U?
Value: *
footprint SOIC127P600X175-14N
pins: 1 1OUT (out), 2 1IN- (in), 3 1IN+ (in), 4 VCC (power), 5 2IN+ (in), 6 2IN- (in), 7 2OUT (out), 8 3OUT (out), 9 3IN- (in), 10 3IN+ (in), 11 GND (power), 12 4IN+ (in), 13 4IN- (in), 14 4OUT (out)

## LMV358IDGKR
designator U?
Value: *
footprint LMV358IDGKR_SOP65P490X110-8N
pins: 1 1OUT (out), 2 1IN- (in), 3 1IN+ (in), 4 GND (power), 5 2IN+ (in), 6 2IN- (in), 7 2OUT (out), 8 VCC (power)

## LP2985-33DBVR
designator U?
Value: *
footprint LP2985-33DBVR_SOT95P280X145-5N
pins: 1 VIN (in), 2 GND (power), 3 ON/!OFF (in), 4 BYPASS (io), 5 VOUT (out)

## LP2985-50DBVR
designator U?
Value: *
footprint SOT95P280X145-5N
pins: 1 VIN (in), 2 GND (power), 3 ON/!OFF (in), 4 BYPASS (io), 5 VOUT (out)

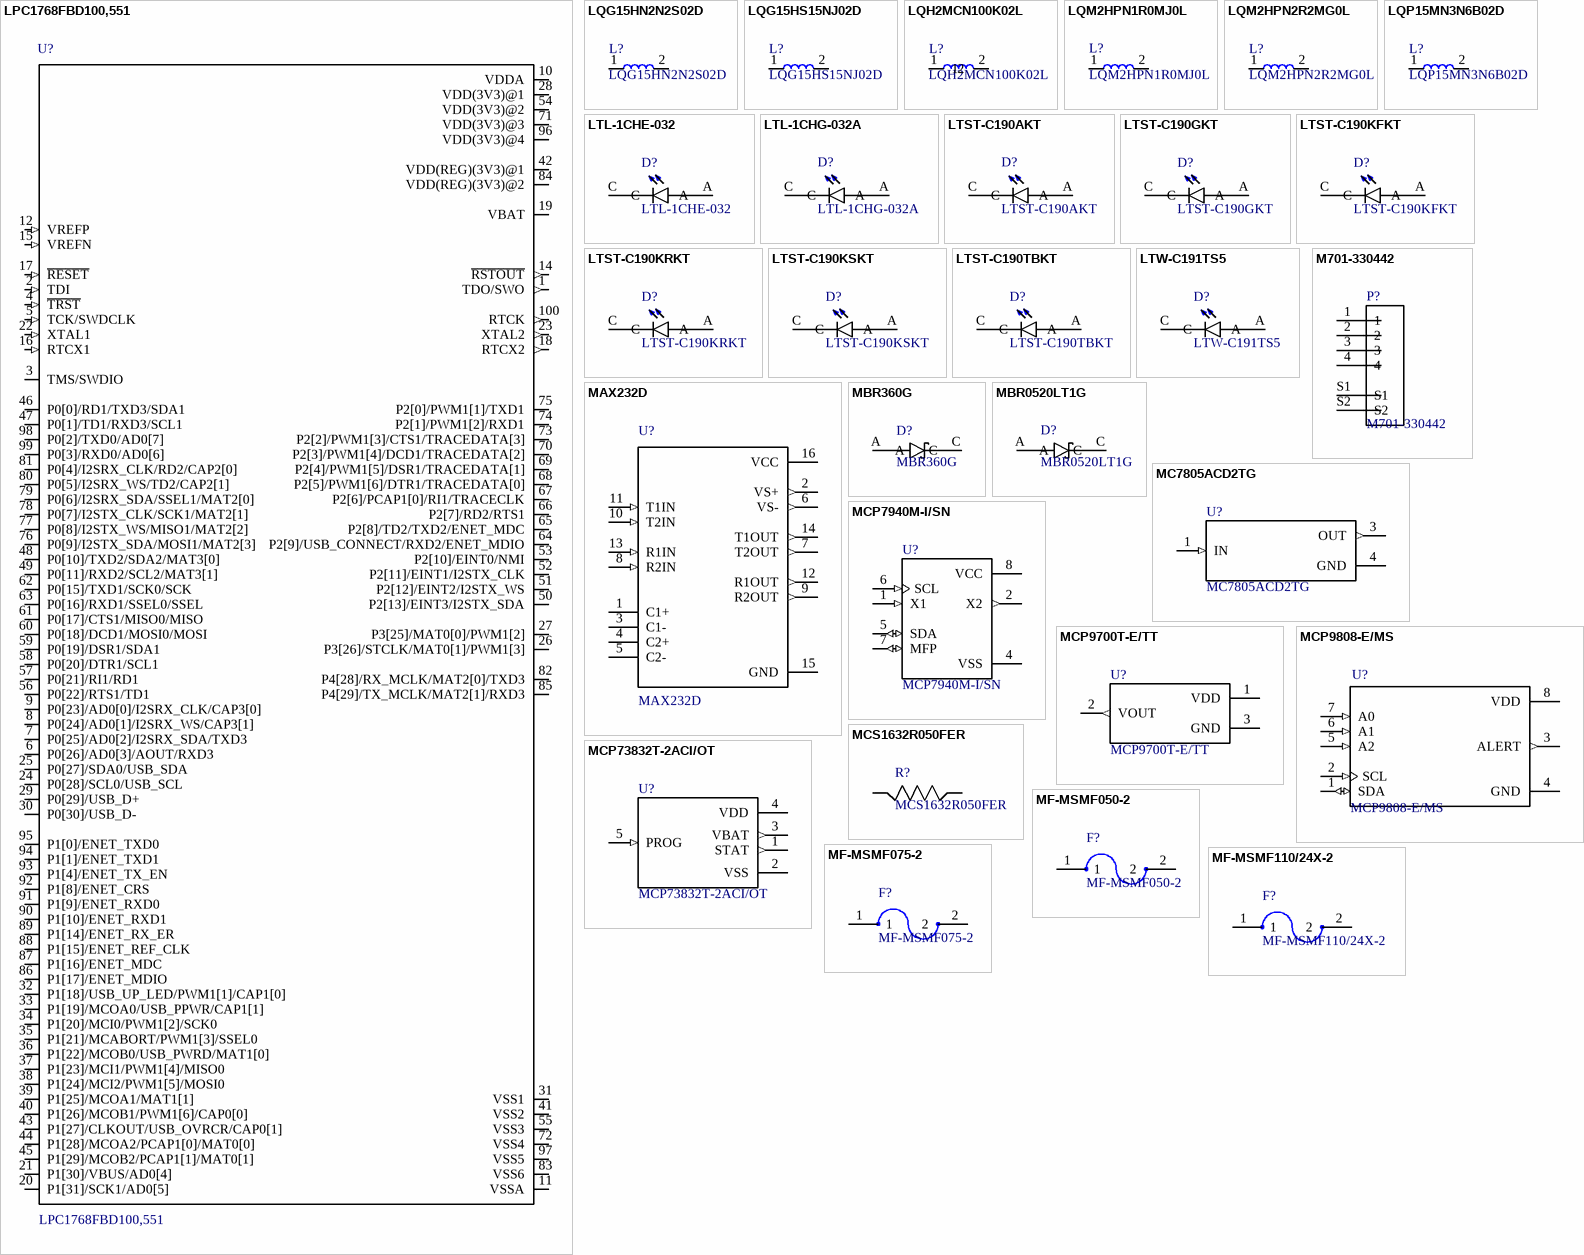
[diagram p10: symbols LPC1768FBD100,551 to MF-MSMF110/24X-2]